# Altium integrated library Renesas Microcontroller R8C.IntLib: 628 symbols (part 26 of 33)
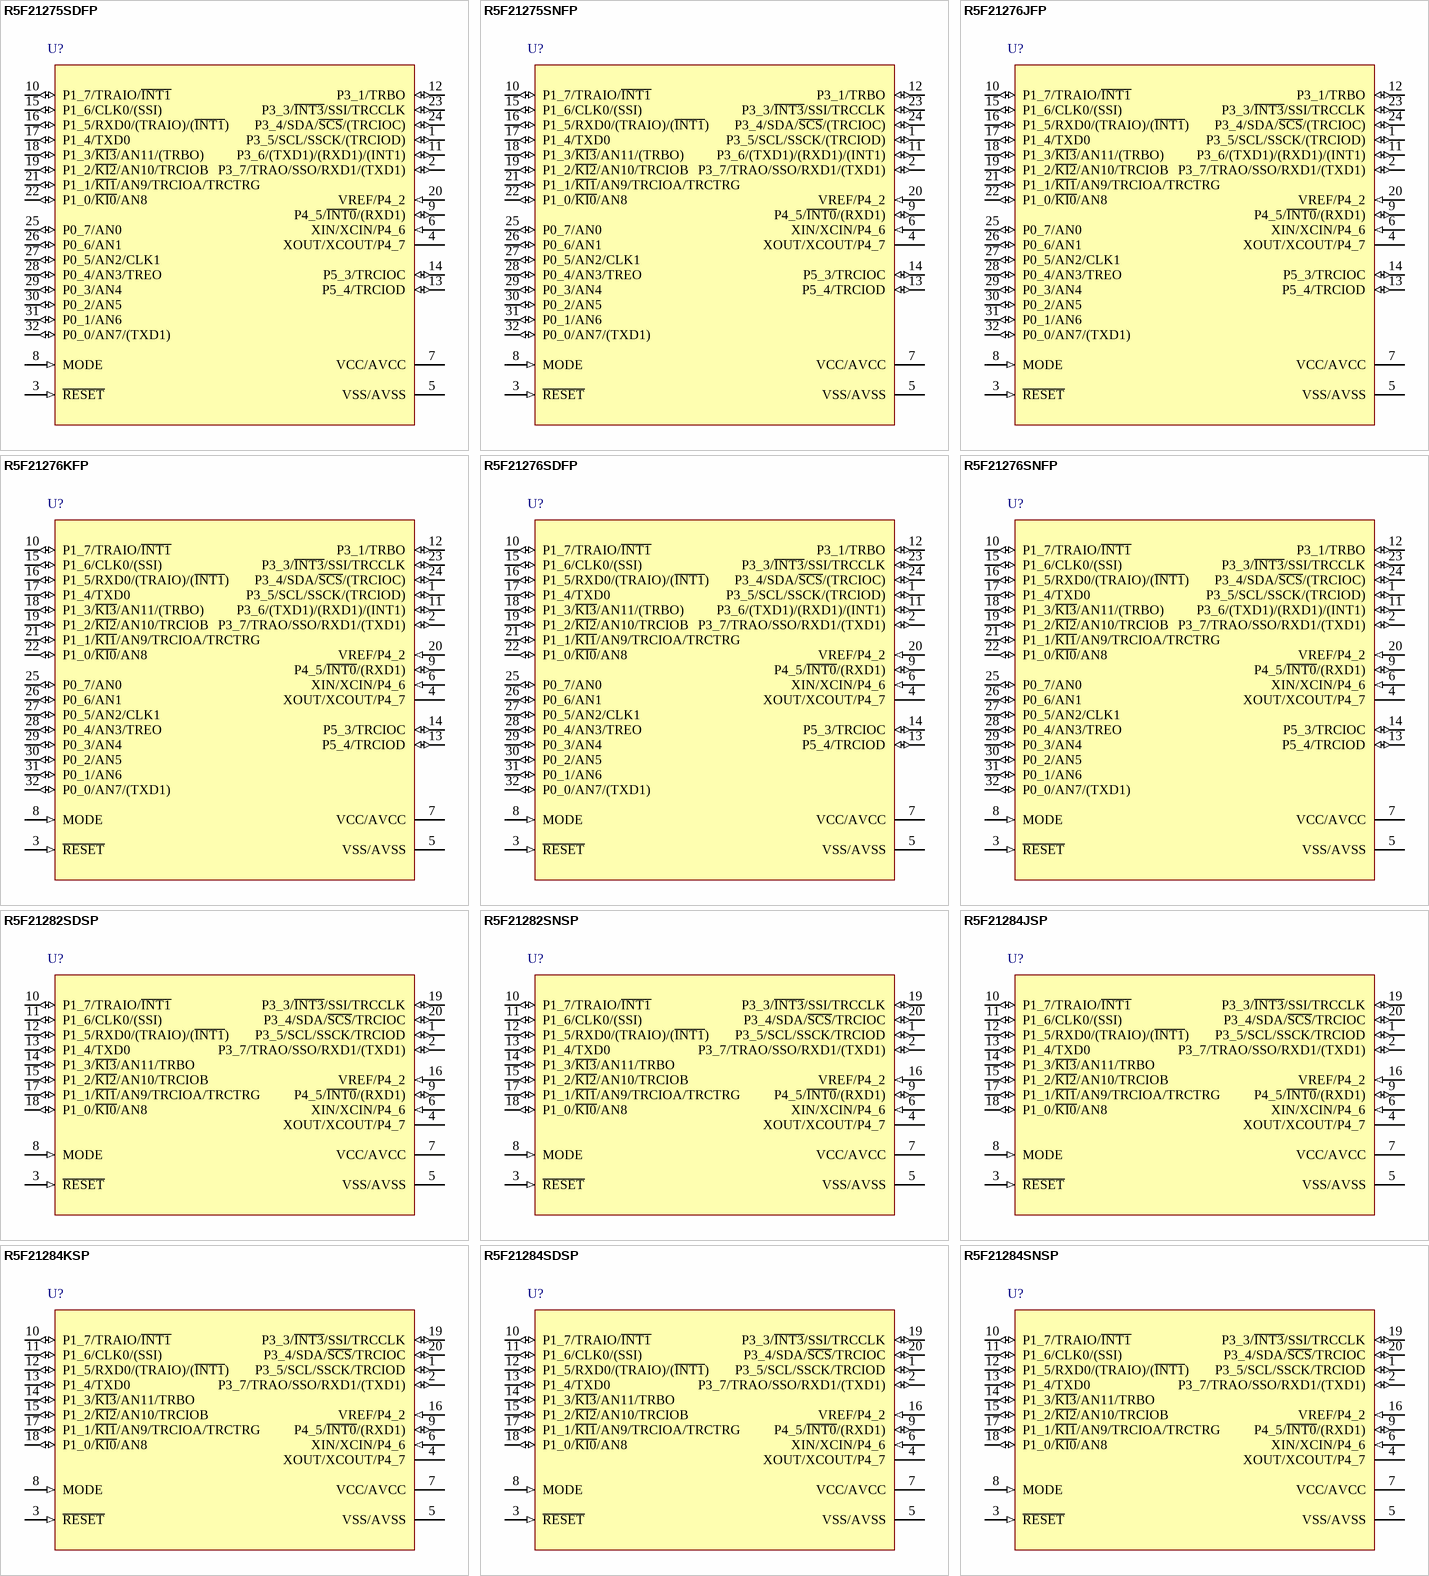
[diagram p141: symbols R5F21275SDFP to R5F21284SNSP]

## R5F21276SNFP
designator U?
R8C/27 Group Single Chip 16-Bit CMOS MCU, 32K ROM + 1K x2 Data Flash, 1.5K RAM, N Version; Published: 30-Oct-2009; DatasheetVersion: Rev.2.10, Sep-2008; PackageVersion: Oct-2005; PackageReference: PLQP0032GB-A; Publisher: Altium Limited; PackageDescription: 32-Pin Plastic Low Profile QFP, 7 x 7 x 1.4 mm Body, 0.8 mm Pitch; Code_JEITA: P-LQFP32-7x7-0.80; ComponentLink1Description: Manufacturer Link; ComponentLink1URL: http://sg.renesas.com/fmwk.jsp?cnt=r8c_family_landing.jsp&fp=/products/mpumcu/r8c_family/; ComponentLink2Description: Datasheet; ComponentLink2URL: http://documentation.renesas.com/eng/products/mpumcu/rej03b0168_r8c2627ds.pdf; ComponentLink3Description: Packaging Specification; ComponentLink3URL: http://sg.renesas.com/media/products/common_info/package/pdf/ic/code/plqp0032gb_a.pdf
footprint PLQP0032GB-A_N (QFP, 32-Leads, Body 7x7mm, Pitch 0.8mm, IPC Medium Density)
footprint PLQP0032GB-A_L (QFP, 32-Leads, Body 7x7mm, Pitch 0.8mm, IPC High Density)
footprint PLQP0032GB-A_M (QFP, 32-Leads, Body 7x7mm, Pitch 0.8mm, IPC Low Density)
pins: 1 P3_5/SCL/SSCK/(TRCIOD) (io), 2 P3_7/TRAO/SSO/RXD1/(TXD1) (io), 3 ~{RESET} (in), 4 XOUT/XCOUT/P4_7, 5 VSS/AVSS (power), 6 XIN/XCIN/P4_6 (in), 7 VCC/AVCC (power), 8 MODE (in), 9 P4_5/~{INT0}/(RXD1) (io), 10 P1_7/TRAIO/~{INT1} (io), 11 P3_6/(TXD1)/(RXD1)/(INT1) (io), 12 P3_1/TRBO (io), 13 P5_4/TRCIOD (io), 14 P5_3/TRCIOC (io), 15 P1_6/CLK0/(SSI) (io), 16 P1_5/RXD0/(TRAIO)/(~{INT1}) (io), 17 P1_4/TXD0 (io), 18 P1_3/~{KI3}/AN11/(TRBO) (io), 19 P1_2/~{KI2}/AN10/TRCIOB (io), 20 VREF/P4_2 (in), 21 P1_1/~{KI1}/AN9/TRCIOA/TRCTRG (io), 22 P1_0/~{KI0}/AN8 (io), 23 P3_3/~{INT3}/SSI/TRCCLK (io), 24 P3_4/SDA/~{SCS}/(TRCIOC) (io), 25 P0_7/AN0 (io), 26 P0_6/AN1 (io), 27 P0_5/AN2/CLK1 (io), 28 P0_4/AN3/TREO (io), 29 P0_3/AN4 (io), 30 P0_2/AN5 (io), 31 P0_1/AN6 (io), 32 P0_0/AN7/(TXD1) (io)

## R5F21282SDSP
designator U?
R8C/28 Group Single Chip 16-Bit CMOS MCU, 8K ROM, 512b RAM, D Version; Published: 30-Oct-2009; DatasheetVersion: Rev.2.10, Sep-2008; PackageVersion: Sep-2005; PackageReference: PLSP0020JB-A; Publisher: Altium Limited; PackageDescription: 20-Pin Plastic Low Profile Shrink SOP, 6.5 x 4.4 x 1.15 mm Body, 0.65 mm Pitch; Code_JEITA: P-LSSOP20-4.4x6.5-0.65; Code_JEDEC: MO-152-AC; ComponentLink1Description: Manufacturer Link; ComponentLink1URL: http://sg.renesas.com/fmwk.jsp?cnt=r8c_family_landing.jsp&fp=/products/mpumcu/r8c_family/; ComponentLink2Description: Datasheet; ComponentLink2URL: http://documentation.renesas.com/eng/products/mpumcu/rej03b0169_r8c2829ds.pdf; ComponentLink3Description: Packaging Specification; ComponentLink3URL: http://sg.renesas.com/media/products/common_info/package/pdf/ic/code/plsp0020jb_a.pdf
footprint PLSP0020JB-A_N (SOP, 20-Leads, Body 6.5x4.4mm, Pitch 0.65mm, IPC Medium Density)
footprint PLSP0020JB-A_L (SOP, 20-Leads, Body 6.5x4.4mm, Pitch 0.65mm, IPC High Density)
footprint PLSP0020JB-A_M (SOP, 20-Leads, Body 6.5x4.4mm, Pitch 0.65mm, IPC Low Density)
pins: 1 P3_5/SCL/SSCK/TRCIOD (io), 2 P3_7/TRAO/SSO/RXD1/(TXD1) (io), 3 ~{RESET} (in), 4 XOUT/XCOUT/P4_7, 5 VSS/AVSS (power), 6 XIN/XCIN/P4_6 (in), 7 VCC/AVCC (power), 8 MODE (in), 9 P4_5/~{INT0}/(RXD1) (io), 10 P1_7/TRAIO/~{INT1} (io), 11 P1_6/CLK0/(SSI) (io), 12 P1_5/RXD0/(TRAIO)/(~{INT1}) (io), 13 P1_4/TXD0 (io), 14 P1_3/~{KI3}/AN11/TRBO (io), 15 P1_2/~{KI2}/AN10/TRCIOB (io), 16 VREF/P4_2 (in), 17 P1_1/~{KI1}/AN9/TRCIOA/TRCTRG (io), 18 P1_0/~{KI0}/AN8 (io), 19 P3_3/~{INT3}/SSI/TRCCLK (io), 20 P3_4/SDA/~{SCS}/TRCIOC (io)

## R5F21282SNSP
designator U?
R8C/28 Group Single Chip 16-Bit CMOS MCU, 8K ROM, 512b RAM, N Version; Published: 30-Oct-2009; DatasheetVersion: Rev.2.10, Sep-2008; PackageVersion: Sep-2005; PackageReference: PLSP0020JB-A; Publisher: Altium Limited; PackageDescription: 20-Pin Plastic Low Profile Shrink SOP, 6.5 x 4.4 x 1.15 mm Body, 0.65 mm Pitch; Code_JEITA: P-LSSOP20-4.4x6.5-0.65; Code_JEDEC: MO-152-AC; ComponentLink1Description: Manufacturer Link; ComponentLink1URL: http://sg.renesas.com/fmwk.jsp?cnt=r8c_family_landing.jsp&fp=/products/mpumcu/r8c_family/; ComponentLink2Description: Datasheet; ComponentLink2URL: http://documentation.renesas.com/eng/products/mpumcu/rej03b0169_r8c2829ds.pdf; ComponentLink3Description: Packaging Specification; ComponentLink3URL: http://sg.renesas.com/media/products/common_info/package/pdf/ic/code/plsp0020jb_a.pdf
footprint PLSP0020JB-A_N (SOP, 20-Leads, Body 6.5x4.4mm, Pitch 0.65mm, IPC Medium Density)
footprint PLSP0020JB-A_L (SOP, 20-Leads, Body 6.5x4.4mm, Pitch 0.65mm, IPC High Density)
footprint PLSP0020JB-A_M (SOP, 20-Leads, Body 6.5x4.4mm, Pitch 0.65mm, IPC Low Density)
pins: 1 P3_5/SCL/SSCK/TRCIOD (io), 2 P3_7/TRAO/SSO/RXD1/(TXD1) (io), 3 ~{RESET} (in), 4 XOUT/XCOUT/P4_7, 5 VSS/AVSS (power), 6 XIN/XCIN/P4_6 (in), 7 VCC/AVCC (power), 8 MODE (in), 9 P4_5/~{INT0}/(RXD1) (io), 10 P1_7/TRAIO/~{INT1} (io), 11 P1_6/CLK0/(SSI) (io), 12 P1_5/RXD0/(TRAIO)/(~{INT1}) (io), 13 P1_4/TXD0 (io), 14 P1_3/~{KI3}/AN11/TRBO (io), 15 P1_2/~{KI2}/AN10/TRCIOB (io), 16 VREF/P4_2 (in), 17 P1_1/~{KI1}/AN9/TRCIOA/TRCTRG (io), 18 P1_0/~{KI0}/AN8 (io), 19 P3_3/~{INT3}/SSI/TRCCLK (io), 20 P3_4/SDA/~{SCS}/TRCIOC (io)

## R5F21284JSP
designator U?
R8C/28 Group Single Chip 16-Bit CMOS MCU, 16K ROM, 1K RAM, J Version; Published: 30-Oct-2009; DatasheetVersion: Rev.2.10, Sep-2008; PackageVersion: Sep-2005; PackageReference: PLSP0020JB-A; Publisher: Altium Limited; PackageDescription: 20-Pin Plastic Low Profile Shrink SOP, 6.5 x 4.4 x 1.15 mm Body, 0.65 mm Pitch; Code_JEITA: P-LSSOP20-4.4x6.5-0.65; Code_JEDEC: MO-152-AC; ComponentLink1Description: Manufacturer Link; ComponentLink1URL: http://sg.renesas.com/fmwk.jsp?cnt=r8c_family_landing.jsp&fp=/products/mpumcu/r8c_family/; ComponentLink2Description: Datasheet; ComponentLink2URL: http://documentation.renesas.com/eng/products/mpumcu/rej03b0169_r8c2829ds.pdf; ComponentLink3Description: Packaging Specification; ComponentLink3URL: http://sg.renesas.com/media/products/common_info/package/pdf/ic/code/plsp0020jb_a.pdf
footprint PLSP0020JB-A_N (SOP, 20-Leads, Body 6.5x4.4mm, Pitch 0.65mm, IPC Medium Density)
footprint PLSP0020JB-A_L (SOP, 20-Leads, Body 6.5x4.4mm, Pitch 0.65mm, IPC High Density)
footprint PLSP0020JB-A_M (SOP, 20-Leads, Body 6.5x4.4mm, Pitch 0.65mm, IPC Low Density)
pins: 1 P3_5/SCL/SSCK/TRCIOD (io), 2 P3_7/TRAO/SSO/RXD1/(TXD1) (io), 3 ~{RESET} (in), 4 XOUT/XCOUT/P4_7, 5 VSS/AVSS (power), 6 XIN/XCIN/P4_6 (in), 7 VCC/AVCC (power), 8 MODE (in), 9 P4_5/~{INT0}/(RXD1) (io), 10 P1_7/TRAIO/~{INT1} (io), 11 P1_6/CLK0/(SSI) (io), 12 P1_5/RXD0/(TRAIO)/(~{INT1}) (io), 13 P1_4/TXD0 (io), 14 P1_3/~{KI3}/AN11/TRBO (io), 15 P1_2/~{KI2}/AN10/TRCIOB (io), 16 VREF/P4_2 (in), 17 P1_1/~{KI1}/AN9/TRCIOA/TRCTRG (io), 18 P1_0/~{KI0}/AN8 (io), 19 P3_3/~{INT3}/SSI/TRCCLK (io), 20 P3_4/SDA/~{SCS}/TRCIOC (io)

## R5F21284KSP
designator U?
R8C/28 Group Single Chip 16-Bit CMOS MCU, 16K ROM, 1K RAM, K Version; Published: 30-Oct-2009; DatasheetVersion: Rev.2.10, Sep-2008; PackageVersion: Sep-2005; PackageReference: PLSP0020JB-A; Publisher: Altium Limited; PackageDescription: 20-Pin Plastic Low Profile Shrink SOP, 6.5 x 4.4 x 1.15 mm Body, 0.65 mm Pitch; Code_JEITA: P-LSSOP20-4.4x6.5-0.65; Code_JEDEC: MO-152-AC; ComponentLink1Description: Manufacturer Link; ComponentLink1URL: http://sg.renesas.com/fmwk.jsp?cnt=r8c_family_landing.jsp&fp=/products/mpumcu/r8c_family/; ComponentLink2Description: Datasheet; ComponentLink2URL: http://documentation.renesas.com/eng/products/mpumcu/rej03b0169_r8c2829ds.pdf; ComponentLink3Description: Packaging Specification; ComponentLink3URL: http://sg.renesas.com/media/products/common_info/package/pdf/ic/code/plsp0020jb_a.pdf
footprint PLSP0020JB-A_N (SOP, 20-Leads, Body 6.5x4.4mm, Pitch 0.65mm, IPC Medium Density)
footprint PLSP0020JB-A_L (SOP, 20-Leads, Body 6.5x4.4mm, Pitch 0.65mm, IPC High Density)
footprint PLSP0020JB-A_M (SOP, 20-Leads, Body 6.5x4.4mm, Pitch 0.65mm, IPC Low Density)
pins: 1 P3_5/SCL/SSCK/TRCIOD (io), 2 P3_7/TRAO/SSO/RXD1/(TXD1) (io), 3 ~{RESET} (in), 4 XOUT/XCOUT/P4_7, 5 VSS/AVSS (power), 6 XIN/XCIN/P4_6 (in), 7 VCC/AVCC (power), 8 MODE (in), 9 P4_5/~{INT0}/(RXD1) (io), 10 P1_7/TRAIO/~{INT1} (io), 11 P1_6/CLK0/(SSI) (io), 12 P1_5/RXD0/(TRAIO)/(~{INT1}) (io), 13 P1_4/TXD0 (io), 14 P1_3/~{KI3}/AN11/TRBO (io), 15 P1_2/~{KI2}/AN10/TRCIOB (io), 16 VREF/P4_2 (in), 17 P1_1/~{KI1}/AN9/TRCIOA/TRCTRG (io), 18 P1_0/~{KI0}/AN8 (io), 19 P3_3/~{INT3}/SSI/TRCCLK (io), 20 P3_4/SDA/~{SCS}/TRCIOC (io)

## R5F21284SDSP
designator U?
R8C/28 Group Single Chip 16-Bit CMOS MCU, 16K ROM, 1K RAM, D Version; Published: 30-Oct-2009; DatasheetVersion: Rev.2.10, Sep-2008; PackageVersion: Sep-2005; PackageReference: PLSP0020JB-A; Publisher: Altium Limited; PackageDescription: 20-Pin Plastic Low Profile Shrink SOP, 6.5 x 4.4 x 1.15 mm Body, 0.65 mm Pitch; Code_JEITA: P-LSSOP20-4.4x6.5-0.65; Code_JEDEC: MO-152-AC; ComponentLink1Description: Manufacturer Link; ComponentLink1URL: http://sg.renesas.com/fmwk.jsp?cnt=r8c_family_landing.jsp&fp=/products/mpumcu/r8c_family/; ComponentLink2Description: Datasheet; ComponentLink2URL: http://documentation.renesas.com/eng/products/mpumcu/rej03b0169_r8c2829ds.pdf; ComponentLink3Description: Packaging Specification; ComponentLink3URL: http://sg.renesas.com/media/products/common_info/package/pdf/ic/code/plsp0020jb_a.pdf
footprint PLSP0020JB-A_N (SOP, 20-Leads, Body 6.5x4.4mm, Pitch 0.65mm, IPC Medium Density)
footprint PLSP0020JB-A_L (SOP, 20-Leads, Body 6.5x4.4mm, Pitch 0.65mm, IPC High Density)
footprint PLSP0020JB-A_M (SOP, 20-Leads, Body 6.5x4.4mm, Pitch 0.65mm, IPC Low Density)
pins: 1 P3_5/SCL/SSCK/TRCIOD (io), 2 P3_7/TRAO/SSO/RXD1/(TXD1) (io), 3 ~{RESET} (in), 4 XOUT/XCOUT/P4_7, 5 VSS/AVSS (power), 6 XIN/XCIN/P4_6 (in), 7 VCC/AVCC (power), 8 MODE (in), 9 P4_5/~{INT0}/(RXD1) (io), 10 P1_7/TRAIO/~{INT1} (io), 11 P1_6/CLK0/(SSI) (io), 12 P1_5/RXD0/(TRAIO)/(~{INT1}) (io), 13 P1_4/TXD0 (io), 14 P1_3/~{KI3}/AN11/TRBO (io), 15 P1_2/~{KI2}/AN10/TRCIOB (io), 16 VREF/P4_2 (in), 17 P1_1/~{KI1}/AN9/TRCIOA/TRCTRG (io), 18 P1_0/~{KI0}/AN8 (io), 19 P3_3/~{INT3}/SSI/TRCCLK (io), 20 P3_4/SDA/~{SCS}/TRCIOC (io)

## R5F21284SNSP
designator U?
R8C/28 Group Single Chip 16-Bit CMOS MCU, 16K ROM, 1K RAM, N Version; Published: 30-Oct-2009; DatasheetVersion: Rev.2.10, Sep-2008; PackageVersion: Sep-2005; PackageReference: PLSP0020JB-A; Publisher: Altium Limited; PackageDescription: 20-Pin Plastic Low Profile Shrink SOP, 6.5 x 4.4 x 1.15 mm Body, 0.65 mm Pitch; Code_JEITA: P-LSSOP20-4.4x6.5-0.65; Code_JEDEC: MO-152-AC; ComponentLink1Description: Manufacturer Link; ComponentLink1URL: http://sg.renesas.com/fmwk.jsp?cnt=r8c_family_landing.jsp&fp=/products/mpumcu/r8c_family/; ComponentLink2Description: Datasheet; ComponentLink2URL: http://documentation.renesas.com/eng/products/mpumcu/rej03b0169_r8c2829ds.pdf; ComponentLink3Description: Packaging Specification; ComponentLink3URL: http://sg.renesas.com/media/products/common_info/package/pdf/ic/code/plsp0020jb_a.pdf
footprint PLSP0020JB-A_N (SOP, 20-Leads, Body 6.5x4.4mm, Pitch 0.65mm, IPC Medium Density)
footprint PLSP0020JB-A_L (SOP, 20-Leads, Body 6.5x4.4mm, Pitch 0.65mm, IPC High Density)
footprint PLSP0020JB-A_M (SOP, 20-Leads, Body 6.5x4.4mm, Pitch 0.65mm, IPC Low Density)
pins: 1 P3_5/SCL/SSCK/TRCIOD (io), 2 P3_7/TRAO/SSO/RXD1/(TXD1) (io), 3 ~{RESET} (in), 4 XOUT/XCOUT/P4_7, 5 VSS/AVSS (power), 6 XIN/XCIN/P4_6 (in), 7 VCC/AVCC (power), 8 MODE (in), 9 P4_5/~{INT0}/(RXD1) (io), 10 P1_7/TRAIO/~{INT1} (io), 11 P1_6/CLK0/(SSI) (io), 12 P1_5/RXD0/(TRAIO)/(~{INT1}) (io), 13 P1_4/TXD0 (io), 14 P1_3/~{KI3}/AN11/TRBO (io), 15 P1_2/~{KI2}/AN10/TRCIOB (io), 16 VREF/P4_2 (in), 17 P1_1/~{KI1}/AN9/TRCIOA/TRCTRG (io), 18 P1_0/~{KI0}/AN8 (io), 19 P3_3/~{INT3}/SSI/TRCCLK (io), 20 P3_4/SDA/~{SCS}/TRCIOC (io)

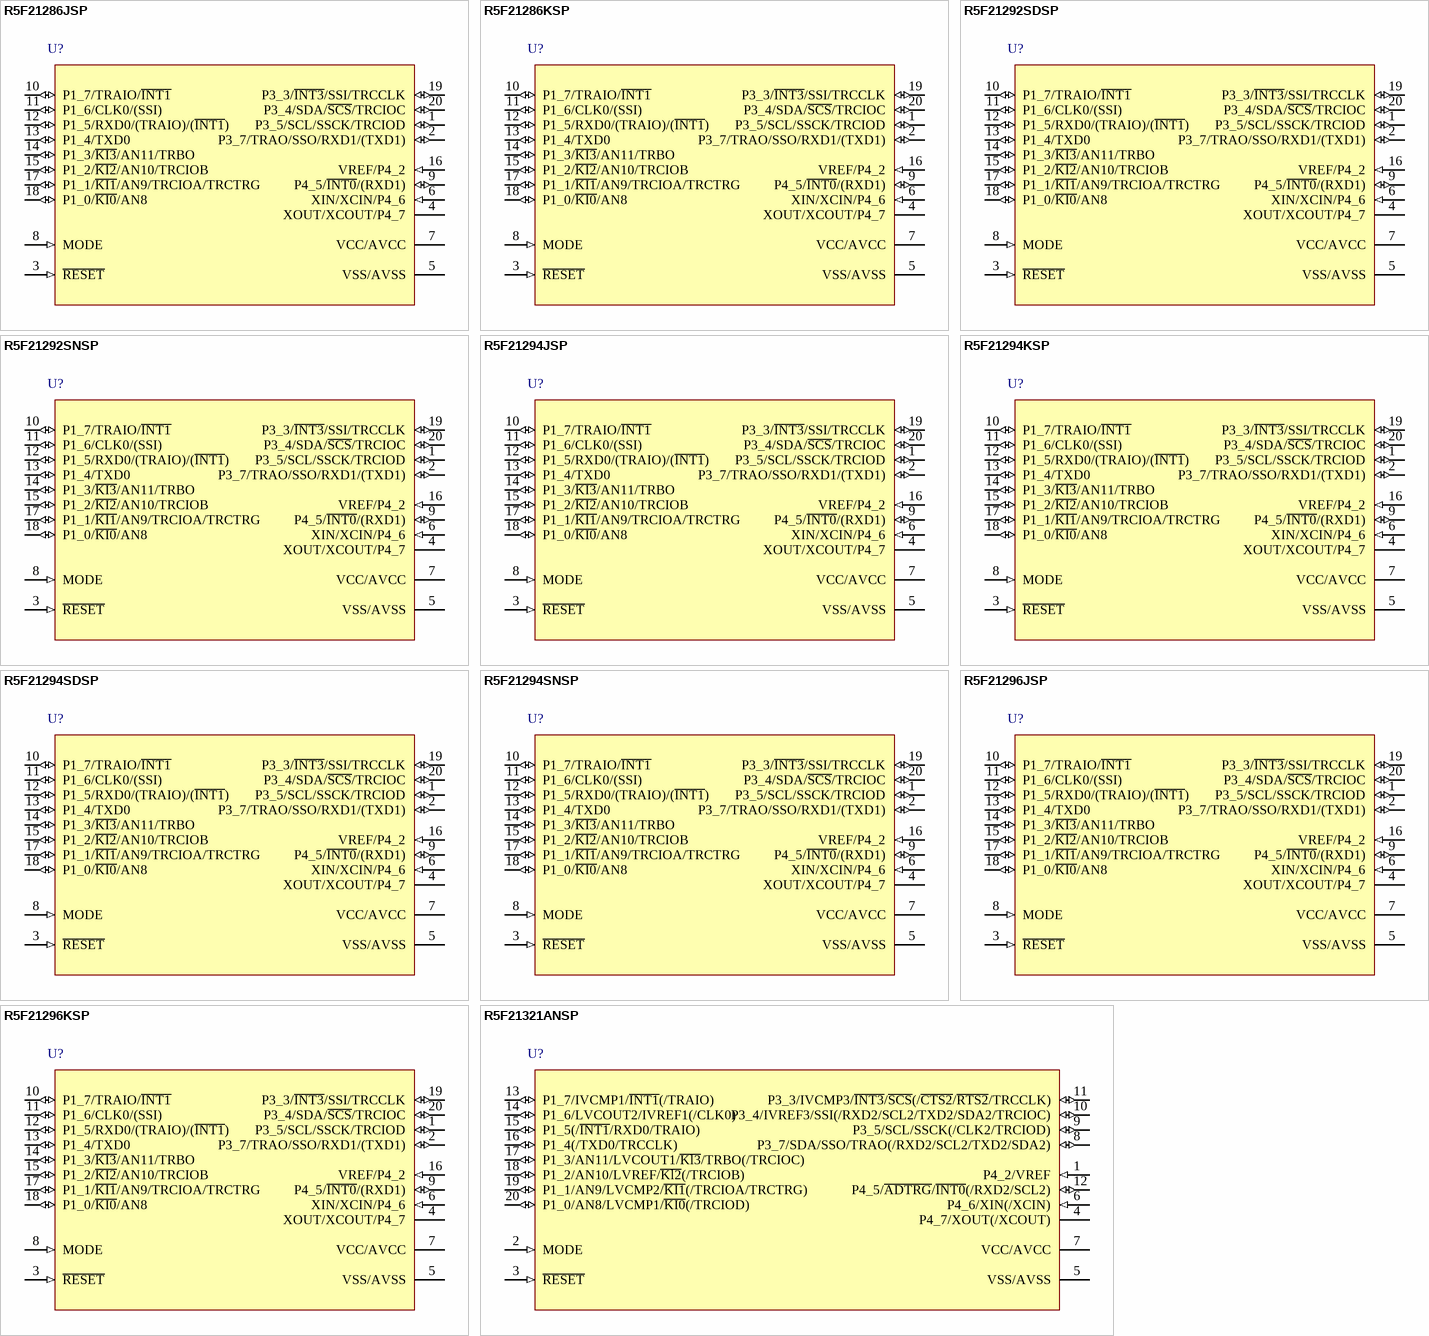
[diagram p89: symbols R5F21286JSP to R5F21321ANSP]

## R5F21286JSP
designator U?
R8C/28 Group Single Chip 16-Bit CMOS MCU, 32K ROM, 1.5K RAM, J Version; Published: 30-Oct-2009; DatasheetVersion: Rev.2.10, Sep-2008; PackageVersion: Sep-2005; PackageReference: PLSP0020JB-A; Publisher: Altium Limited; PackageDescription: 20-Pin Plastic Low Profile Shrink SOP, 6.5 x 4.4 x 1.15 mm Body, 0.65 mm Pitch; Code_JEITA: P-LSSOP20-4.4x6.5-0.65; Code_JEDEC: MO-152-AC; ComponentLink1Description: Manufacturer Link; ComponentLink1URL: http://sg.renesas.com/fmwk.jsp?cnt=r8c_family_landing.jsp&fp=/products/mpumcu/r8c_family/; ComponentLink2Description: Datasheet; ComponentLink2URL: http://documentation.renesas.com/eng/products/mpumcu/rej03b0169_r8c2829ds.pdf; ComponentLink3Description: Packaging Specification; ComponentLink3URL: http://sg.renesas.com/media/products/common_info/package/pdf/ic/code/plsp0020jb_a.pdf
footprint PLSP0020JB-A_N (SOP, 20-Leads, Body 6.5x4.4mm, Pitch 0.65mm, IPC Medium Density)
footprint PLSP0020JB-A_L (SOP, 20-Leads, Body 6.5x4.4mm, Pitch 0.65mm, IPC High Density)
footprint PLSP0020JB-A_M (SOP, 20-Leads, Body 6.5x4.4mm, Pitch 0.65mm, IPC Low Density)
pins: 1 P3_5/SCL/SSCK/TRCIOD (io), 2 P3_7/TRAO/SSO/RXD1/(TXD1) (io), 3 ~{RESET} (in), 4 XOUT/XCOUT/P4_7, 5 VSS/AVSS (power), 6 XIN/XCIN/P4_6 (in), 7 VCC/AVCC (power), 8 MODE (in), 9 P4_5/~{INT0}/(RXD1) (io), 10 P1_7/TRAIO/~{INT1} (io), 11 P1_6/CLK0/(SSI) (io), 12 P1_5/RXD0/(TRAIO)/(~{INT1}) (io), 13 P1_4/TXD0 (io), 14 P1_3/~{KI3}/AN11/TRBO (io), 15 P1_2/~{KI2}/AN10/TRCIOB (io), 16 VREF/P4_2 (in), 17 P1_1/~{KI1}/AN9/TRCIOA/TRCTRG (io), 18 P1_0/~{KI0}/AN8 (io), 19 P3_3/~{INT3}/SSI/TRCCLK (io), 20 P3_4/SDA/~{SCS}/TRCIOC (io)

## R5F21286KSP
designator U?
R8C/28 Group Single Chip 16-Bit CMOS MCU, 32K ROM, 1.5K RAM, K Version; Published: 30-Oct-2009; DatasheetVersion: Rev.2.10, Sep-2008; PackageVersion: Sep-2005; PackageReference: PLSP0020JB-A; Publisher: Altium Limited; PackageDescription: 20-Pin Plastic Low Profile Shrink SOP, 6.5 x 4.4 x 1.15 mm Body, 0.65 mm Pitch; Code_JEITA: P-LSSOP20-4.4x6.5-0.65; Code_JEDEC: MO-152-AC; ComponentLink1Description: Manufacturer Link; ComponentLink1URL: http://sg.renesas.com/fmwk.jsp?cnt=r8c_family_landing.jsp&fp=/products/mpumcu/r8c_family/; ComponentLink2Description: Datasheet; ComponentLink2URL: http://documentation.renesas.com/eng/products/mpumcu/rej03b0169_r8c2829ds.pdf; ComponentLink3Description: Packaging Specification; ComponentLink3URL: http://sg.renesas.com/media/products/common_info/package/pdf/ic/code/plsp0020jb_a.pdf
footprint PLSP0020JB-A_N (SOP, 20-Leads, Body 6.5x4.4mm, Pitch 0.65mm, IPC Medium Density)
footprint PLSP0020JB-A_L (SOP, 20-Leads, Body 6.5x4.4mm, Pitch 0.65mm, IPC High Density)
footprint PLSP0020JB-A_M (SOP, 20-Leads, Body 6.5x4.4mm, Pitch 0.65mm, IPC Low Density)
pins: 1 P3_5/SCL/SSCK/TRCIOD (io), 2 P3_7/TRAO/SSO/RXD1/(TXD1) (io), 3 ~{RESET} (in), 4 XOUT/XCOUT/P4_7, 5 VSS/AVSS (power), 6 XIN/XCIN/P4_6 (in), 7 VCC/AVCC (power), 8 MODE (in), 9 P4_5/~{INT0}/(RXD1) (io), 10 P1_7/TRAIO/~{INT1} (io), 11 P1_6/CLK0/(SSI) (io), 12 P1_5/RXD0/(TRAIO)/(~{INT1}) (io), 13 P1_4/TXD0 (io), 14 P1_3/~{KI3}/AN11/TRBO (io), 15 P1_2/~{KI2}/AN10/TRCIOB (io), 16 VREF/P4_2 (in), 17 P1_1/~{KI1}/AN9/TRCIOA/TRCTRG (io), 18 P1_0/~{KI0}/AN8 (io), 19 P3_3/~{INT3}/SSI/TRCCLK (io), 20 P3_4/SDA/~{SCS}/TRCIOC (io)

## R5F21292SDSP
designator U?
R8C/29 Group Single Chip 16-Bit CMOS MCU, 8K ROM + 1K x2 Data Flash, 512b RAM, D Version; Published: 30-Oct-2009; DatasheetVersion: Rev.2.10, Sep-2008; PackageVersion: Sep-2005; PackageReference: PLSP0020JB-A; Publisher: Altium Limited; PackageDescription: 20-Pin Plastic Low Profile Shrink SOP, 6.5 x 4.4 x 1.15 mm Body, 0.65 mm Pitch; Code_JEITA: P-LSSOP20-4.4x6.5-0.65; Code_JEDEC: MO-152-AC; ComponentLink1Description: Manufacturer Link; ComponentLink1URL: http://sg.renesas.com/fmwk.jsp?cnt=r8c_family_landing.jsp&fp=/products/mpumcu/r8c_family/; ComponentLink2Description: Datasheet; ComponentLink2URL: http://documentation.renesas.com/eng/products/mpumcu/rej03b0169_r8c2829ds.pdf; ComponentLink3Description: Packaging Specification; ComponentLink3URL: http://sg.renesas.com/media/products/common_info/package/pdf/ic/code/plsp0020jb_a.pdf
footprint PLSP0020JB-A_N (SOP, 20-Leads, Body 6.5x4.4mm, Pitch 0.65mm, IPC Medium Density)
footprint PLSP0020JB-A_L (SOP, 20-Leads, Body 6.5x4.4mm, Pitch 0.65mm, IPC High Density)
footprint PLSP0020JB-A_M (SOP, 20-Leads, Body 6.5x4.4mm, Pitch 0.65mm, IPC Low Density)
pins: 1 P3_5/SCL/SSCK/TRCIOD (io), 2 P3_7/TRAO/SSO/RXD1/(TXD1) (io), 3 ~{RESET} (in), 4 XOUT/XCOUT/P4_7, 5 VSS/AVSS (power), 6 XIN/XCIN/P4_6 (in), 7 VCC/AVCC (power), 8 MODE (in), 9 P4_5/~{INT0}/(RXD1) (io), 10 P1_7/TRAIO/~{INT1} (io), 11 P1_6/CLK0/(SSI) (io), 12 P1_5/RXD0/(TRAIO)/(~{INT1}) (io), 13 P1_4/TXD0 (io), 14 P1_3/~{KI3}/AN11/TRBO (io), 15 P1_2/~{KI2}/AN10/TRCIOB (io), 16 VREF/P4_2 (in), 17 P1_1/~{KI1}/AN9/TRCIOA/TRCTRG (io), 18 P1_0/~{KI0}/AN8 (io), 19 P3_3/~{INT3}/SSI/TRCCLK (io), 20 P3_4/SDA/~{SCS}/TRCIOC (io)

## R5F21292SNSP
designator U?
R8C/29 Group Single Chip 16-Bit CMOS MCU, 8K ROM + 1K x2 Data Flash, 512b RAM, N Version; Published: 30-Oct-2009; DatasheetVersion: Rev.2.10, Sep-2008; PackageVersion: Sep-2005; PackageReference: PLSP0020JB-A; Publisher: Altium Limited; PackageDescription: 20-Pin Plastic Low Profile Shrink SOP, 6.5 x 4.4 x 1.15 mm Body, 0.65 mm Pitch; Code_JEITA: P-LSSOP20-4.4x6.5-0.65; Code_JEDEC: MO-152-AC; ComponentLink1Description: Manufacturer Link; ComponentLink1URL: http://sg.renesas.com/fmwk.jsp?cnt=r8c_family_landing.jsp&fp=/products/mpumcu/r8c_family/; ComponentLink2Description: Datasheet; ComponentLink2URL: http://documentation.renesas.com/eng/products/mpumcu/rej03b0169_r8c2829ds.pdf; ComponentLink3Description: Packaging Specification; ComponentLink3URL: http://sg.renesas.com/media/products/common_info/package/pdf/ic/code/plsp0020jb_a.pdf
footprint PLSP0020JB-A_N (SOP, 20-Leads, Body 6.5x4.4mm, Pitch 0.65mm, IPC Medium Density)
footprint PLSP0020JB-A_L (SOP, 20-Leads, Body 6.5x4.4mm, Pitch 0.65mm, IPC High Density)
footprint PLSP0020JB-A_M (SOP, 20-Leads, Body 6.5x4.4mm, Pitch 0.65mm, IPC Low Density)
pins: 1 P3_5/SCL/SSCK/TRCIOD (io), 2 P3_7/TRAO/SSO/RXD1/(TXD1) (io), 3 ~{RESET} (in), 4 XOUT/XCOUT/P4_7, 5 VSS/AVSS (power), 6 XIN/XCIN/P4_6 (in), 7 VCC/AVCC (power), 8 MODE (in), 9 P4_5/~{INT0}/(RXD1) (io), 10 P1_7/TRAIO/~{INT1} (io), 11 P1_6/CLK0/(SSI) (io), 12 P1_5/RXD0/(TRAIO)/(~{INT1}) (io), 13 P1_4/TXD0 (io), 14 P1_3/~{KI3}/AN11/TRBO (io), 15 P1_2/~{KI2}/AN10/TRCIOB (io), 16 VREF/P4_2 (in), 17 P1_1/~{KI1}/AN9/TRCIOA/TRCTRG (io), 18 P1_0/~{KI0}/AN8 (io), 19 P3_3/~{INT3}/SSI/TRCCLK (io), 20 P3_4/SDA/~{SCS}/TRCIOC (io)

## R5F21294JSP
designator U?
R8C/29 Group Single Chip 16-Bit CMOS MCU, 16K ROM + 1K x2 Data Flash, 1K RAM, J Version; Published: 30-Oct-2009; DatasheetVersion: Rev.2.10, Sep-2008; PackageVersion: Sep-2005; PackageReference: PLSP0020JB-A; Publisher: Altium Limited; PackageDescription: 20-Pin Plastic Low Profile Shrink SOP, 6.5 x 4.4 x 1.15 mm Body, 0.65 mm Pitch; Code_JEITA: P-LSSOP20-4.4x6.5-0.65; Code_JEDEC: MO-152-AC; ComponentLink1Description: Manufacturer Link; ComponentLink1URL: http://sg.renesas.com/fmwk.jsp?cnt=r8c_family_landing.jsp&fp=/products/mpumcu/r8c_family/; ComponentLink2Description: Datasheet; ComponentLink2URL: http://documentation.renesas.com/eng/products/mpumcu/rej03b0169_r8c2829ds.pdf; ComponentLink3Description: Packaging Specification; ComponentLink3URL: http://sg.renesas.com/media/products/common_info/package/pdf/ic/code/plsp0020jb_a.pdf
footprint PLSP0020JB-A_N (SOP, 20-Leads, Body 6.5x4.4mm, Pitch 0.65mm, IPC Medium Density)
footprint PLSP0020JB-A_L (SOP, 20-Leads, Body 6.5x4.4mm, Pitch 0.65mm, IPC High Density)
footprint PLSP0020JB-A_M (SOP, 20-Leads, Body 6.5x4.4mm, Pitch 0.65mm, IPC Low Density)
pins: 1 P3_5/SCL/SSCK/TRCIOD (io), 2 P3_7/TRAO/SSO/RXD1/(TXD1) (io), 3 ~{RESET} (in), 4 XOUT/XCOUT/P4_7, 5 VSS/AVSS (power), 6 XIN/XCIN/P4_6 (in), 7 VCC/AVCC (power), 8 MODE (in), 9 P4_5/~{INT0}/(RXD1) (io), 10 P1_7/TRAIO/~{INT1} (io), 11 P1_6/CLK0/(SSI) (io), 12 P1_5/RXD0/(TRAIO)/(~{INT1}) (io), 13 P1_4/TXD0 (io), 14 P1_3/~{KI3}/AN11/TRBO (io), 15 P1_2/~{KI2}/AN10/TRCIOB (io), 16 VREF/P4_2 (in), 17 P1_1/~{KI1}/AN9/TRCIOA/TRCTRG (io), 18 P1_0/~{KI0}/AN8 (io), 19 P3_3/~{INT3}/SSI/TRCCLK (io), 20 P3_4/SDA/~{SCS}/TRCIOC (io)

## R5F21294KSP
designator U?
R8C/29 Group Single Chip 16-Bit CMOS MCU, 16K ROM + 1K x2 Data Flash, 1K RAM, K Version; Published: 30-Oct-2009; DatasheetVersion: Rev.2.10, Sep-2008; PackageVersion: Sep-2005; PackageReference: PLSP0020JB-A; Publisher: Altium Limited; PackageDescription: 20-Pin Plastic Low Profile Shrink SOP, 6.5 x 4.4 x 1.15 mm Body, 0.65 mm Pitch; Code_JEITA: P-LSSOP20-4.4x6.5-0.65; Code_JEDEC: MO-152-AC; ComponentLink1Description: Manufacturer Link; ComponentLink1URL: http://sg.renesas.com/fmwk.jsp?cnt=r8c_family_landing.jsp&fp=/products/mpumcu/r8c_family/; ComponentLink2Description: Datasheet; ComponentLink2URL: http://documentation.renesas.com/eng/products/mpumcu/rej03b0169_r8c2829ds.pdf; ComponentLink3Description: Packaging Specification; ComponentLink3URL: http://sg.renesas.com/media/products/common_info/package/pdf/ic/code/plsp0020jb_a.pdf
footprint PLSP0020JB-A_N (SOP, 20-Leads, Body 6.5x4.4mm, Pitch 0.65mm, IPC Medium Density)
footprint PLSP0020JB-A_L (SOP, 20-Leads, Body 6.5x4.4mm, Pitch 0.65mm, IPC High Density)
footprint PLSP0020JB-A_M (SOP, 20-Leads, Body 6.5x4.4mm, Pitch 0.65mm, IPC Low Density)
pins: 1 P3_5/SCL/SSCK/TRCIOD (io), 2 P3_7/TRAO/SSO/RXD1/(TXD1) (io), 3 ~{RESET} (in), 4 XOUT/XCOUT/P4_7, 5 VSS/AVSS (power), 6 XIN/XCIN/P4_6 (in), 7 VCC/AVCC (power), 8 MODE (in), 9 P4_5/~{INT0}/(RXD1) (io), 10 P1_7/TRAIO/~{INT1} (io), 11 P1_6/CLK0/(SSI) (io), 12 P1_5/RXD0/(TRAIO)/(~{INT1}) (io), 13 P1_4/TXD0 (io), 14 P1_3/~{KI3}/AN11/TRBO (io), 15 P1_2/~{KI2}/AN10/TRCIOB (io), 16 VREF/P4_2 (in), 17 P1_1/~{KI1}/AN9/TRCIOA/TRCTRG (io), 18 P1_0/~{KI0}/AN8 (io), 19 P3_3/~{INT3}/SSI/TRCCLK (io), 20 P3_4/SDA/~{SCS}/TRCIOC (io)

## R5F21294SDSP
designator U?
R8C/29 Group Single Chip 16-Bit CMOS MCU, 16K ROM + 1K x2 Data Flash, 1K RAM, D Version; Published: 30-Oct-2009; DatasheetVersion: Rev.2.10, Sep-2008; PackageVersion: Sep-2005; PackageReference: PLSP0020JB-A; Publisher: Altium Limited; PackageDescription: 20-Pin Plastic Low Profile Shrink SOP, 6.5 x 4.4 x 1.15 mm Body, 0.65 mm Pitch; Code_JEITA: P-LSSOP20-4.4x6.5-0.65; Code_JEDEC: MO-152-AC; ComponentLink1Description: Manufacturer Link; ComponentLink1URL: http://sg.renesas.com/fmwk.jsp?cnt=r8c_family_landing.jsp&fp=/products/mpumcu/r8c_family/; ComponentLink2Description: Datasheet; ComponentLink2URL: http://documentation.renesas.com/eng/products/mpumcu/rej03b0169_r8c2829ds.pdf; ComponentLink3Description: Packaging Specification; ComponentLink3URL: http://sg.renesas.com/media/products/common_info/package/pdf/ic/code/plsp0020jb_a.pdf
footprint PLSP0020JB-A_N (SOP, 20-Leads, Body 6.5x4.4mm, Pitch 0.65mm, IPC Medium Density)
footprint PLSP0020JB-A_L (SOP, 20-Leads, Body 6.5x4.4mm, Pitch 0.65mm, IPC High Density)
footprint PLSP0020JB-A_M (SOP, 20-Leads, Body 6.5x4.4mm, Pitch 0.65mm, IPC Low Density)
pins: 1 P3_5/SCL/SSCK/TRCIOD (io), 2 P3_7/TRAO/SSO/RXD1/(TXD1) (io), 3 ~{RESET} (in), 4 XOUT/XCOUT/P4_7, 5 VSS/AVSS (power), 6 XIN/XCIN/P4_6 (in), 7 VCC/AVCC (power), 8 MODE (in), 9 P4_5/~{INT0}/(RXD1) (io), 10 P1_7/TRAIO/~{INT1} (io), 11 P1_6/CLK0/(SSI) (io), 12 P1_5/RXD0/(TRAIO)/(~{INT1}) (io), 13 P1_4/TXD0 (io), 14 P1_3/~{KI3}/AN11/TRBO (io), 15 P1_2/~{KI2}/AN10/TRCIOB (io), 16 VREF/P4_2 (in), 17 P1_1/~{KI1}/AN9/TRCIOA/TRCTRG (io), 18 P1_0/~{KI0}/AN8 (io), 19 P3_3/~{INT3}/SSI/TRCCLK (io), 20 P3_4/SDA/~{SCS}/TRCIOC (io)

## R5F21294SNSP
designator U?
R8C/29 Group Single Chip 16-Bit CMOS MCU, 16K ROM + 1K x2 Data Flash, 1K RAM, N Version; Published: 30-Oct-2009; DatasheetVersion: Rev.2.10, Sep-2008; PackageVersion: Sep-2005; PackageReference: PLSP0020JB-A; Publisher: Altium Limited; PackageDescription: 20-Pin Plastic Low Profile Shrink SOP, 6.5 x 4.4 x 1.15 mm Body, 0.65 mm Pitch; Code_JEITA: P-LSSOP20-4.4x6.5-0.65; Code_JEDEC: MO-152-AC; ComponentLink1Description: Manufacturer Link; ComponentLink1URL: http://sg.renesas.com/fmwk.jsp?cnt=r8c_family_landing.jsp&fp=/products/mpumcu/r8c_family/; ComponentLink2Description: Datasheet; ComponentLink2URL: http://documentation.renesas.com/eng/products/mpumcu/rej03b0169_r8c2829ds.pdf; ComponentLink3Description: Packaging Specification; ComponentLink3URL: http://sg.renesas.com/media/products/common_info/package/pdf/ic/code/plsp0020jb_a.pdf
footprint PLSP0020JB-A_N (SOP, 20-Leads, Body 6.5x4.4mm, Pitch 0.65mm, IPC Medium Density)
footprint PLSP0020JB-A_L (SOP, 20-Leads, Body 6.5x4.4mm, Pitch 0.65mm, IPC High Density)
footprint PLSP0020JB-A_M (SOP, 20-Leads, Body 6.5x4.4mm, Pitch 0.65mm, IPC Low Density)
pins: 1 P3_5/SCL/SSCK/TRCIOD (io), 2 P3_7/TRAO/SSO/RXD1/(TXD1) (io), 3 ~{RESET} (in), 4 XOUT/XCOUT/P4_7, 5 VSS/AVSS (power), 6 XIN/XCIN/P4_6 (in), 7 VCC/AVCC (power), 8 MODE (in), 9 P4_5/~{INT0}/(RXD1) (io), 10 P1_7/TRAIO/~{INT1} (io), 11 P1_6/CLK0/(SSI) (io), 12 P1_5/RXD0/(TRAIO)/(~{INT1}) (io), 13 P1_4/TXD0 (io), 14 P1_3/~{KI3}/AN11/TRBO (io), 15 P1_2/~{KI2}/AN10/TRCIOB (io), 16 VREF/P4_2 (in), 17 P1_1/~{KI1}/AN9/TRCIOA/TRCTRG (io), 18 P1_0/~{KI0}/AN8 (io), 19 P3_3/~{INT3}/SSI/TRCCLK (io), 20 P3_4/SDA/~{SCS}/TRCIOC (io)

## R5F21296JSP
designator U?
R8C/29 Group Single Chip 16-Bit CMOS MCU, 32K ROM + 1K x2 Data Flash, 1.5K RAM, J Version; Published: 30-Oct-2009; DatasheetVersion: Rev.2.10, Sep-2008; PackageVersion: Sep-2005; PackageReference: PLSP0020JB-A; Publisher: Altium Limited; PackageDescription: 20-Pin Plastic Low Profile Shrink SOP, 6.5 x 4.4 x 1.15 mm Body, 0.65 mm Pitch; Code_JEITA: P-LSSOP20-4.4x6.5-0.65; Code_JEDEC: MO-152-AC; ComponentLink1Description: Manufacturer Link; ComponentLink1URL: http://sg.renesas.com/fmwk.jsp?cnt=r8c_family_landing.jsp&fp=/products/mpumcu/r8c_family/; ComponentLink2Description: Datasheet; ComponentLink2URL: http://documentation.renesas.com/eng/products/mpumcu/rej03b0169_r8c2829ds.pdf; ComponentLink3Description: Packaging Specification; ComponentLink3URL: http://sg.renesas.com/media/products/common_info/package/pdf/ic/code/plsp0020jb_a.pdf
footprint PLSP0020JB-A_N (SOP, 20-Leads, Body 6.5x4.4mm, Pitch 0.65mm, IPC Medium Density)
footprint PLSP0020JB-A_L (SOP, 20-Leads, Body 6.5x4.4mm, Pitch 0.65mm, IPC High Density)
footprint PLSP0020JB-A_M (SOP, 20-Leads, Body 6.5x4.4mm, Pitch 0.65mm, IPC Low Density)
pins: 1 P3_5/SCL/SSCK/TRCIOD (io), 2 P3_7/TRAO/SSO/RXD1/(TXD1) (io), 3 ~{RESET} (in), 4 XOUT/XCOUT/P4_7, 5 VSS/AVSS (power), 6 XIN/XCIN/P4_6 (in), 7 VCC/AVCC (power), 8 MODE (in), 9 P4_5/~{INT0}/(RXD1) (io), 10 P1_7/TRAIO/~{INT1} (io), 11 P1_6/CLK0/(SSI) (io), 12 P1_5/RXD0/(TRAIO)/(~{INT1}) (io), 13 P1_4/TXD0 (io), 14 P1_3/~{KI3}/AN11/TRBO (io), 15 P1_2/~{KI2}/AN10/TRCIOB (io), 16 VREF/P4_2 (in), 17 P1_1/~{KI1}/AN9/TRCIOA/TRCTRG (io), 18 P1_0/~{KI0}/AN8 (io), 19 P3_3/~{INT3}/SSI/TRCCLK (io), 20 P3_4/SDA/~{SCS}/TRCIOC (io)

## R5F21296KSP
designator U?
R8C/29 Group Single Chip 16-Bit CMOS MCU, 32K ROM + 1K x2 Data Flash, 1.5K RAM, K Version; Published: 30-Oct-2009; DatasheetVersion: Rev.2.10, Sep-2008; PackageVersion: Sep-2005; PackageReference: PLSP0020JB-A; Publisher: Altium Limited; PackageDescription: 20-Pin Plastic Low Profile Shrink SOP, 6.5 x 4.4 x 1.15 mm Body, 0.65 mm Pitch; Code_JEITA: P-LSSOP20-4.4x6.5-0.65; Code_JEDEC: MO-152-AC; ComponentLink1Description: Manufacturer Link; ComponentLink1URL: http://sg.renesas.com/fmwk.jsp?cnt=r8c_family_landing.jsp&fp=/products/mpumcu/r8c_family/; ComponentLink2Description: Datasheet; ComponentLink2URL: http://documentation.renesas.com/eng/products/mpumcu/rej03b0169_r8c2829ds.pdf; ComponentLink3Description: Packaging Specification; ComponentLink3URL: http://sg.renesas.com/media/products/common_info/package/pdf/ic/code/plsp0020jb_a.pdf
footprint PLSP0020JB-A_N (SOP, 20-Leads, Body 6.5x4.4mm, Pitch 0.65mm, IPC Medium Density)
footprint PLSP0020JB-A_L (SOP, 20-Leads, Body 6.5x4.4mm, Pitch 0.65mm, IPC High Density)
footprint PLSP0020JB-A_M (SOP, 20-Leads, Body 6.5x4.4mm, Pitch 0.65mm, IPC Low Density)
pins: 1 P3_5/SCL/SSCK/TRCIOD (io), 2 P3_7/TRAO/SSO/RXD1/(TXD1) (io), 3 ~{RESET} (in), 4 XOUT/XCOUT/P4_7, 5 VSS/AVSS (power), 6 XIN/XCIN/P4_6 (in), 7 VCC/AVCC (power), 8 MODE (in), 9 P4_5/~{INT0}/(RXD1) (io), 10 P1_7/TRAIO/~{INT1} (io), 11 P1_6/CLK0/(SSI) (io), 12 P1_5/RXD0/(TRAIO)/(~{INT1}) (io), 13 P1_4/TXD0 (io), 14 P1_3/~{KI3}/AN11/TRBO (io), 15 P1_2/~{KI2}/AN10/TRCIOB (io), 16 VREF/P4_2 (in), 17 P1_1/~{KI1}/AN9/TRCIOA/TRCTRG (io), 18 P1_0/~{KI0}/AN8 (io), 19 P3_3/~{INT3}/SSI/TRCCLK (io), 20 P3_4/SDA/~{SCS}/TRCIOC (io)

## R5F21321ANSP
designator U?
R8C/32A Group Single Chip 16-Bit CMOS MCU, 4K ROM + 1K x4 Data Flash, 512b RAM, N Version; Published: 30-Oct-2009; DatasheetVersion: Rev.1.00, Sep-2009; PackageVersion: Sep-2005; PackageReference: PLSP0020JB-A; Publisher: Altium Limited; PackageDescription: 20-Pin Plastic Low Profile Shrink SOP, 6.5 x 4.4 x 1.15 mm Body, 0.65 mm Pitch; Code_JEITA: P-LSSOP20-4.4x6.5-0.65; Code_JEDEC: MO-152-AC; ComponentLink1Description: Manufacturer Link; ComponentLink1URL: http://sg.renesas.com/fmwk.jsp?cnt=r8c_family_landing.jsp&fp=/products/mpumcu/r8c_family/; ComponentLink2Description: Datasheet; ComponentLink2URL: http://documentation.renesas.com/eng/products/mpumcu/rej03b0229_r8c32ads.pdf; ComponentLink3Description: Packaging Specification; ComponentLink3URL: http://sg.renesas.com/media/products/common_info/package/pdf/ic/code/plsp0020jb_a.pdf
footprint PLSP0020JB-A_N (SOP, 20-Leads, Body 6.5x4.4mm, Pitch 0.65mm, IPC Medium Density)
footprint PLSP0020JB-A_L (SOP, 20-Leads, Body 6.5x4.4mm, Pitch 0.65mm, IPC High Density)
footprint PLSP0020JB-A_M (SOP, 20-Leads, Body 6.5x4.4mm, Pitch 0.65mm, IPC Low Density)
pins: 1 P4_2/VREF (in), 2 MODE (in), 3 ~{RESET} (in), 4 P4_7/XOUT(/XCOUT), 5 VSS/AVSS (power), 6 P4_6/XIN(/XCIN) (in), 7 VCC/AVCC (power), 8 P3_7/SDA/SSO/TRAO(/RXD2/SCL2/TXD2/SDA2) (io), 9 P3_5/SCL/SSCK(/CLK2/TRCIOD) (io), 10 P3_4/IVREF3/SSI(/RXD2/SCL2/TXD2/SDA2/TRCIOC) (io), 11 P3_3/IVCMP3/~{INT3}/~{SCS}(/~{CTS2}/~{RTS2}/TRCCLK) (io), 12 P4_5/~{ADTRG}/~{INT0}(/RXD2/SCL2) (io), 13 P1_7/IVCMP1/~{INT1}(/TRAIO) (io), 14 P1_6/LVCOUT2/IVREF1(/CLK0) (io), 15 P1_5(/~{INT1}/RXD0/TRAIO) (io), 16 P1_4(/TXD0/TRCCLK) (io), 17 P1_3/AN11/LVCOUT1/~{Kl3}/TRBO(/TRCIOC) (io), 18 P1_2/AN10/LVREF/~{Kl2}(/TRCIOB) (io), 19 P1_1/AN9/LVCMP2/~{KI1}(/TRCIOA/TRCTRG) (io), 20 P1_0/AN8/LVCMP1/~{KI0}(/TRCIOD) (io)

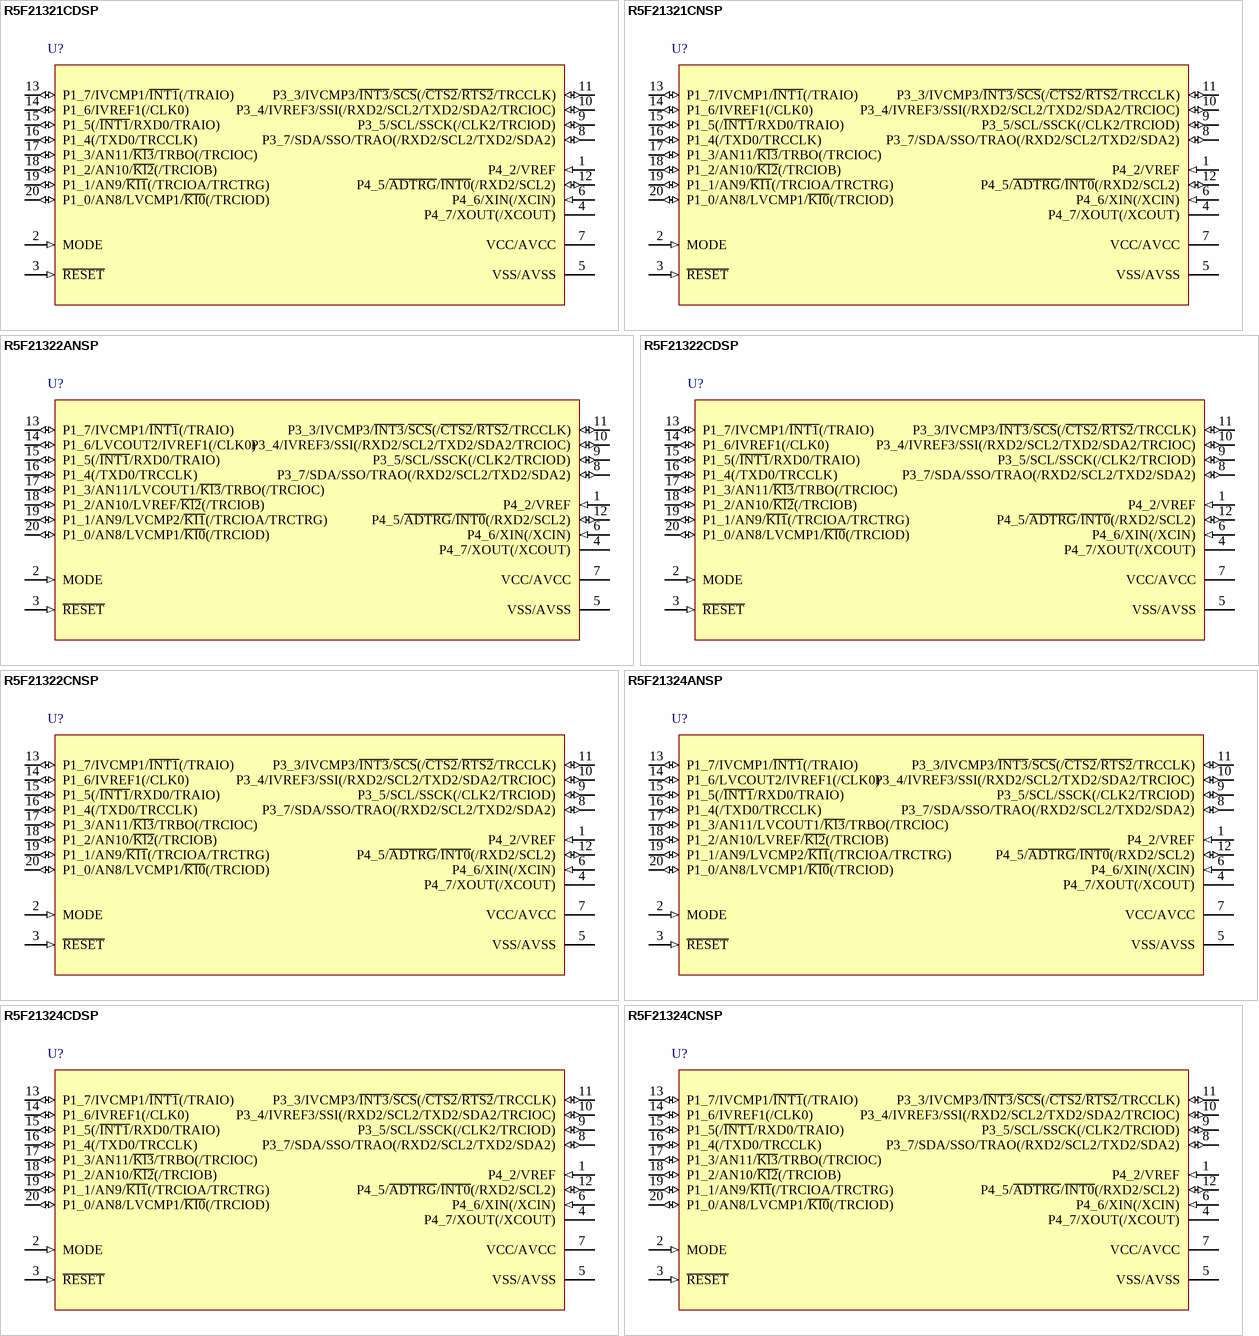
[diagram p90: symbols R5F21321CDSP to R5F21324CNSP]

## R5F21321CDSP
designator U?
R8C/32C Group Single Chip 16-Bit CMOS MCU, 4K + 4K ROM, 512b RAM, D Version; Published: 17-Feb-2010; DatasheetVersion: Rev.1.00, Dec-2009; PackageVersion: Sep-2005; PackageReference: PLSP0020JB-A; Publisher: Altium Limited; PackageDescription: 20-Pin Plastic Low Profile Shrink SOP, 6.5 x 4.4 x 1.15 mm Body, 0.65 mm Pitch; Code_JEITA: P-LSSOP20-4.4x6.5-0.65; Code_JEDEC: MO-152-AC; ComponentLink1Description: Manufacturer Link; ComponentLink1URL: http://sg.renesas.com/fmwk.jsp?cnt=r8c_family_landing.jsp&fp=/products/mpumcu/r8c_family/; ComponentLink2Description: Datasheet; ComponentLink2URL: http://documentation.renesas.com/eng/products/mpumcu/rej09b0573_r8c32chm.pdf; ComponentLink3Description: Packaging Specification; ComponentLink3URL: http://sg.renesas.com/media/products/common_info/package/pdf/ic/code/plsp0020jb_a.pdf
footprint PLSP0020JB-A_N (SOP, 20-Leads, Body 6.5x4.4mm, Pitch 0.65mm, IPC Medium Density)
footprint PLSP0020JB-A_L (SOP, 20-Leads, Body 6.5x4.4mm, Pitch 0.65mm, IPC High Density)
footprint PLSP0020JB-A_M (SOP, 20-Leads, Body 6.5x4.4mm, Pitch 0.65mm, IPC Low Density)
pins: 1 P4_2/VREF (in), 2 MODE (in), 3 ~{RESET} (in), 4 P4_7/XOUT(/XCOUT), 5 VSS/AVSS (power), 6 P4_6/XIN(/XCIN) (in), 7 VCC/AVCC (power), 8 P3_7/SDA/SSO/TRAO(/RXD2/SCL2/TXD2/SDA2) (io), 9 P3_5/SCL/SSCK(/CLK2/TRCIOD) (io), 10 P3_4/IVREF3/SSI(/RXD2/SCL2/TXD2/SDA2/TRCIOC) (io), 11 P3_3/IVCMP3/~{INT3}/~{SCS}(/~{CTS2}/~{RTS2}/TRCCLK) (io), 12 P4_5/~{ADTRG}/~{INT0}(/RXD2/SCL2) (io), 13 P1_7/IVCMP1/~{INT1}(/TRAIO) (io), 14 P1_6/IVREF1(/CLK0) (io), 15 P1_5(/~{INT1}/RXD0/TRAIO) (io), 16 P1_4(/TXD0/TRCCLK) (io), 17 P1_3/AN11/~{Kl3}/TRBO(/TRCIOC) (io), 18 P1_2/AN10/~{Kl2}(/TRCIOB) (io), 19 P1_1/AN9/~{KI1}(/TRCIOA/TRCTRG) (io), 20 P1_0/AN8/LVCMP1/~{KI0}(/TRCIOD) (io)

## R5F21321CNSP
designator U?
R8C/32C Group Single Chip 16-Bit CMOS MCU, 4K + 4K ROM, 512b RAM, N Version; Published: 17-Feb-2010; DatasheetVersion: Rev.1.00, Dec-2009; PackageVersion: Sep-2005; PackageReference: PLSP0020JB-A; Publisher: Altium Limited; PackageDescription: 20-Pin Plastic Low Profile Shrink SOP, 6.5 x 4.4 x 1.15 mm Body, 0.65 mm Pitch; Code_JEITA: P-LSSOP20-4.4x6.5-0.65; Code_JEDEC: MO-152-AC; ComponentLink1Description: Manufacturer Link; ComponentLink1URL: http://sg.renesas.com/fmwk.jsp?cnt=r8c_family_landing.jsp&fp=/products/mpumcu/r8c_family/; ComponentLink2Description: Datasheet; ComponentLink2URL: http://documentation.renesas.com/eng/products/mpumcu/rej09b0573_r8c32chm.pdf; ComponentLink3Description: Packaging Specification; ComponentLink3URL: http://sg.renesas.com/media/products/common_info/package/pdf/ic/code/plsp0020jb_a.pdf
footprint PLSP0020JB-A_N (SOP, 20-Leads, Body 6.5x4.4mm, Pitch 0.65mm, IPC Medium Density)
footprint PLSP0020JB-A_L (SOP, 20-Leads, Body 6.5x4.4mm, Pitch 0.65mm, IPC High Density)
footprint PLSP0020JB-A_M (SOP, 20-Leads, Body 6.5x4.4mm, Pitch 0.65mm, IPC Low Density)
pins: 1 P4_2/VREF (in), 2 MODE (in), 3 ~{RESET} (in), 4 P4_7/XOUT(/XCOUT), 5 VSS/AVSS (power), 6 P4_6/XIN(/XCIN) (in), 7 VCC/AVCC (power), 8 P3_7/SDA/SSO/TRAO(/RXD2/SCL2/TXD2/SDA2) (io), 9 P3_5/SCL/SSCK(/CLK2/TRCIOD) (io), 10 P3_4/IVREF3/SSI(/RXD2/SCL2/TXD2/SDA2/TRCIOC) (io), 11 P3_3/IVCMP3/~{INT3}/~{SCS}(/~{CTS2}/~{RTS2}/TRCCLK) (io), 12 P4_5/~{ADTRG}/~{INT0}(/RXD2/SCL2) (io), 13 P1_7/IVCMP1/~{INT1}(/TRAIO) (io), 14 P1_6/IVREF1(/CLK0) (io), 15 P1_5(/~{INT1}/RXD0/TRAIO) (io), 16 P1_4(/TXD0/TRCCLK) (io), 17 P1_3/AN11/~{Kl3}/TRBO(/TRCIOC) (io), 18 P1_2/AN10/~{Kl2}(/TRCIOB) (io), 19 P1_1/AN9/~{KI1}(/TRCIOA/TRCTRG) (io), 20 P1_0/AN8/LVCMP1/~{KI0}(/TRCIOD) (io)

## R5F21322ANSP
designator U?
R8C/32A Group Single Chip 16-Bit CMOS MCU, 8K ROM + 1K x4 Data Flash, 1K RAM, N Version; Published: 30-Oct-2009; DatasheetVersion: Rev.1.00, Sep-2009; PackageVersion: Sep-2005; PackageReference: PLSP0020JB-A; Publisher: Altium Limited; PackageDescription: 20-Pin Plastic Low Profile Shrink SOP, 6.5 x 4.4 x 1.15 mm Body, 0.65 mm Pitch; Code_JEITA: P-LSSOP20-4.4x6.5-0.65; Code_JEDEC: MO-152-AC; ComponentLink1Description: Manufacturer Link; ComponentLink1URL: http://sg.renesas.com/fmwk.jsp?cnt=r8c_family_landing.jsp&fp=/products/mpumcu/r8c_family/; ComponentLink2Description: Datasheet; ComponentLink2URL: http://documentation.renesas.com/eng/products/mpumcu/rej03b0229_r8c32ads.pdf; ComponentLink3Description: Packaging Specification; ComponentLink3URL: http://sg.renesas.com/media/products/common_info/package/pdf/ic/code/plsp0020jb_a.pdf
footprint PLSP0020JB-A_N (SOP, 20-Leads, Body 6.5x4.4mm, Pitch 0.65mm, IPC Medium Density)
footprint PLSP0020JB-A_L (SOP, 20-Leads, Body 6.5x4.4mm, Pitch 0.65mm, IPC High Density)
footprint PLSP0020JB-A_M (SOP, 20-Leads, Body 6.5x4.4mm, Pitch 0.65mm, IPC Low Density)
pins: 1 P4_2/VREF (in), 2 MODE (in), 3 ~{RESET} (in), 4 P4_7/XOUT(/XCOUT), 5 VSS/AVSS (power), 6 P4_6/XIN(/XCIN) (in), 7 VCC/AVCC (power), 8 P3_7/SDA/SSO/TRAO(/RXD2/SCL2/TXD2/SDA2) (io), 9 P3_5/SCL/SSCK(/CLK2/TRCIOD) (io), 10 P3_4/IVREF3/SSI(/RXD2/SCL2/TXD2/SDA2/TRCIOC) (io), 11 P3_3/IVCMP3/~{INT3}/~{SCS}(/~{CTS2}/~{RTS2}/TRCCLK) (io), 12 P4_5/~{ADTRG}/~{INT0}(/RXD2/SCL2) (io), 13 P1_7/IVCMP1/~{INT1}(/TRAIO) (io), 14 P1_6/LVCOUT2/IVREF1(/CLK0) (io), 15 P1_5(/~{INT1}/RXD0/TRAIO) (io), 16 P1_4(/TXD0/TRCCLK) (io), 17 P1_3/AN11/LVCOUT1/~{Kl3}/TRBO(/TRCIOC) (io), 18 P1_2/AN10/LVREF/~{Kl2}(/TRCIOB) (io), 19 P1_1/AN9/LVCMP2/~{KI1}(/TRCIOA/TRCTRG) (io), 20 P1_0/AN8/LVCMP1/~{KI0}(/TRCIOD) (io)

## R5F21322CDSP
designator U?
R8C/32C Group Single Chip 16-Bit CMOS MCU, 8K + 4K ROM, 1K RAM, D Version; Published: 17-Feb-2010; DatasheetVersion: Rev.1.00, Dec-2009; PackageVersion: Sep-2005; PackageReference: PLSP0020JB-A; Publisher: Altium Limited; PackageDescription: 20-Pin Plastic Low Profile Shrink SOP, 6.5 x 4.4 x 1.15 mm Body, 0.65 mm Pitch; Code_JEITA: P-LSSOP20-4.4x6.5-0.65; Code_JEDEC: MO-152-AC; ComponentLink1Description: Manufacturer Link; ComponentLink1URL: http://sg.renesas.com/fmwk.jsp?cnt=r8c_family_landing.jsp&fp=/products/mpumcu/r8c_family/; ComponentLink2Description: Datasheet; ComponentLink2URL: http://documentation.renesas.com/eng/products/mpumcu/rej09b0573_r8c32chm.pdf; ComponentLink3Description: Packaging Specification; ComponentLink3URL: http://sg.renesas.com/media/products/common_info/package/pdf/ic/code/plsp0020jb_a.pdf
footprint PLSP0020JB-A_N (SOP, 20-Leads, Body 6.5x4.4mm, Pitch 0.65mm, IPC Medium Density)
footprint PLSP0020JB-A_L (SOP, 20-Leads, Body 6.5x4.4mm, Pitch 0.65mm, IPC High Density)
footprint PLSP0020JB-A_M (SOP, 20-Leads, Body 6.5x4.4mm, Pitch 0.65mm, IPC Low Density)
pins: 1 P4_2/VREF (in), 2 MODE (in), 3 ~{RESET} (in), 4 P4_7/XOUT(/XCOUT), 5 VSS/AVSS (power), 6 P4_6/XIN(/XCIN) (in), 7 VCC/AVCC (power), 8 P3_7/SDA/SSO/TRAO(/RXD2/SCL2/TXD2/SDA2) (io), 9 P3_5/SCL/SSCK(/CLK2/TRCIOD) (io), 10 P3_4/IVREF3/SSI(/RXD2/SCL2/TXD2/SDA2/TRCIOC) (io), 11 P3_3/IVCMP3/~{INT3}/~{SCS}(/~{CTS2}/~{RTS2}/TRCCLK) (io), 12 P4_5/~{ADTRG}/~{INT0}(/RXD2/SCL2) (io), 13 P1_7/IVCMP1/~{INT1}(/TRAIO) (io), 14 P1_6/IVREF1(/CLK0) (io), 15 P1_5(/~{INT1}/RXD0/TRAIO) (io), 16 P1_4(/TXD0/TRCCLK) (io), 17 P1_3/AN11/~{Kl3}/TRBO(/TRCIOC) (io), 18 P1_2/AN10/~{Kl2}(/TRCIOB) (io), 19 P1_1/AN9/~{KI1}(/TRCIOA/TRCTRG) (io), 20 P1_0/AN8/LVCMP1/~{KI0}(/TRCIOD) (io)

## R5F21322CNSP
designator U?
R8C/32C Group Single Chip 16-Bit CMOS MCU, 8K + 4K ROM, 1K RAM, N Version; Published: 17-Feb-2010; DatasheetVersion: Rev.1.00, Dec-2009; PackageVersion: Sep-2005; PackageReference: PLSP0020JB-A; Publisher: Altium Limited; PackageDescription: 20-Pin Plastic Low Profile Shrink SOP, 6.5 x 4.4 x 1.15 mm Body, 0.65 mm Pitch; Code_JEITA: P-LSSOP20-4.4x6.5-0.65; Code_JEDEC: MO-152-AC; ComponentLink1Description: Manufacturer Link; ComponentLink1URL: http://sg.renesas.com/fmwk.jsp?cnt=r8c_family_landing.jsp&fp=/products/mpumcu/r8c_family/; ComponentLink2Description: Datasheet; ComponentLink2URL: http://documentation.renesas.com/eng/products/mpumcu/rej09b0573_r8c32chm.pdf; ComponentLink3Description: Packaging Specification; ComponentLink3URL: http://sg.renesas.com/media/products/common_info/package/pdf/ic/code/plsp0020jb_a.pdf
footprint PLSP0020JB-A_N (SOP, 20-Leads, Body 6.5x4.4mm, Pitch 0.65mm, IPC Medium Density)
footprint PLSP0020JB-A_L (SOP, 20-Leads, Body 6.5x4.4mm, Pitch 0.65mm, IPC High Density)
footprint PLSP0020JB-A_M (SOP, 20-Leads, Body 6.5x4.4mm, Pitch 0.65mm, IPC Low Density)
pins: 1 P4_2/VREF (in), 2 MODE (in), 3 ~{RESET} (in), 4 P4_7/XOUT(/XCOUT), 5 VSS/AVSS (power), 6 P4_6/XIN(/XCIN) (in), 7 VCC/AVCC (power), 8 P3_7/SDA/SSO/TRAO(/RXD2/SCL2/TXD2/SDA2) (io), 9 P3_5/SCL/SSCK(/CLK2/TRCIOD) (io), 10 P3_4/IVREF3/SSI(/RXD2/SCL2/TXD2/SDA2/TRCIOC) (io), 11 P3_3/IVCMP3/~{INT3}/~{SCS}(/~{CTS2}/~{RTS2}/TRCCLK) (io), 12 P4_5/~{ADTRG}/~{INT0}(/RXD2/SCL2) (io), 13 P1_7/IVCMP1/~{INT1}(/TRAIO) (io), 14 P1_6/IVREF1(/CLK0) (io), 15 P1_5(/~{INT1}/RXD0/TRAIO) (io), 16 P1_4(/TXD0/TRCCLK) (io), 17 P1_3/AN11/~{Kl3}/TRBO(/TRCIOC) (io), 18 P1_2/AN10/~{Kl2}(/TRCIOB) (io), 19 P1_1/AN9/~{KI1}(/TRCIOA/TRCTRG) (io), 20 P1_0/AN8/LVCMP1/~{KI0}(/TRCIOD) (io)

## R5F21324ANSP
designator U?
R8C/32A Group Single Chip 16-Bit CMOS MCU, 16K ROM + 1K x4 Data Flash, 1.5K RAM, N Version; Published: 30-Oct-2009; DatasheetVersion: Rev.1.00, Sep-2009; PackageVersion: Sep-2005; PackageReference: PLSP0020JB-A; Publisher: Altium Limited; PackageDescription: 20-Pin Plastic Low Profile Shrink SOP, 6.5 x 4.4 x 1.15 mm Body, 0.65 mm Pitch; Code_JEITA: P-LSSOP20-4.4x6.5-0.65; Code_JEDEC: MO-152-AC; ComponentLink1Description: Manufacturer Link; ComponentLink1URL: http://sg.renesas.com/fmwk.jsp?cnt=r8c_family_landing.jsp&fp=/products/mpumcu/r8c_family/; ComponentLink2Description: Datasheet; ComponentLink2URL: http://documentation.renesas.com/eng/products/mpumcu/rej03b0229_r8c32ads.pdf; ComponentLink3Description: Packaging Specification; ComponentLink3URL: http://sg.renesas.com/media/products/common_info/package/pdf/ic/code/plsp0020jb_a.pdf
footprint PLSP0020JB-A_N (SOP, 20-Leads, Body 6.5x4.4mm, Pitch 0.65mm, IPC Medium Density)
footprint PLSP0020JB-A_L (SOP, 20-Leads, Body 6.5x4.4mm, Pitch 0.65mm, IPC High Density)
footprint PLSP0020JB-A_M (SOP, 20-Leads, Body 6.5x4.4mm, Pitch 0.65mm, IPC Low Density)
pins: 1 P4_2/VREF (in), 2 MODE (in), 3 ~{RESET} (in), 4 P4_7/XOUT(/XCOUT), 5 VSS/AVSS (power), 6 P4_6/XIN(/XCIN) (in), 7 VCC/AVCC (power), 8 P3_7/SDA/SSO/TRAO(/RXD2/SCL2/TXD2/SDA2) (io), 9 P3_5/SCL/SSCK(/CLK2/TRCIOD) (io), 10 P3_4/IVREF3/SSI(/RXD2/SCL2/TXD2/SDA2/TRCIOC) (io), 11 P3_3/IVCMP3/~{INT3}/~{SCS}(/~{CTS2}/~{RTS2}/TRCCLK) (io), 12 P4_5/~{ADTRG}/~{INT0}(/RXD2/SCL2) (io), 13 P1_7/IVCMP1/~{INT1}(/TRAIO) (io), 14 P1_6/LVCOUT2/IVREF1(/CLK0) (io), 15 P1_5(/~{INT1}/RXD0/TRAIO) (io), 16 P1_4(/TXD0/TRCCLK) (io), 17 P1_3/AN11/LVCOUT1/~{Kl3}/TRBO(/TRCIOC) (io), 18 P1_2/AN10/LVREF/~{Kl2}(/TRCIOB) (io), 19 P1_1/AN9/LVCMP2/~{KI1}(/TRCIOA/TRCTRG) (io), 20 P1_0/AN8/LVCMP1/~{KI0}(/TRCIOD) (io)

## R5F21324CDSP
designator U?
R8C/32C Group Single Chip 16-Bit CMOS MCU, 16K + 4K ROM, 1.5K RAM, D Version; Published: 17-Feb-2010; DatasheetVersion: Rev.1.00, Dec-2009; PackageVersion: Sep-2005; PackageReference: PLSP0020JB-A; Publisher: Altium Limited; PackageDescription: 20-Pin Plastic Low Profile Shrink SOP, 6.5 x 4.4 x 1.15 mm Body, 0.65 mm Pitch; Code_JEITA: P-LSSOP20-4.4x6.5-0.65; Code_JEDEC: MO-152-AC; ComponentLink1Description: Manufacturer Link; ComponentLink1URL: http://sg.renesas.com/fmwk.jsp?cnt=r8c_family_landing.jsp&fp=/products/mpumcu/r8c_family/; ComponentLink2Description: Datasheet; ComponentLink2URL: http://documentation.renesas.com/eng/products/mpumcu/rej09b0573_r8c32chm.pdf; ComponentLink3Description: Packaging Specification; ComponentLink3URL: http://sg.renesas.com/media/products/common_info/package/pdf/ic/code/plsp0020jb_a.pdf
footprint PLSP0020JB-A_N (SOP, 20-Leads, Body 6.5x4.4mm, Pitch 0.65mm, IPC Medium Density)
footprint PLSP0020JB-A_L (SOP, 20-Leads, Body 6.5x4.4mm, Pitch 0.65mm, IPC High Density)
footprint PLSP0020JB-A_M (SOP, 20-Leads, Body 6.5x4.4mm, Pitch 0.65mm, IPC Low Density)
pins: 1 P4_2/VREF (in), 2 MODE (in), 3 ~{RESET} (in), 4 P4_7/XOUT(/XCOUT), 5 VSS/AVSS (power), 6 P4_6/XIN(/XCIN) (in), 7 VCC/AVCC (power), 8 P3_7/SDA/SSO/TRAO(/RXD2/SCL2/TXD2/SDA2) (io), 9 P3_5/SCL/SSCK(/CLK2/TRCIOD) (io), 10 P3_4/IVREF3/SSI(/RXD2/SCL2/TXD2/SDA2/TRCIOC) (io), 11 P3_3/IVCMP3/~{INT3}/~{SCS}(/~{CTS2}/~{RTS2}/TRCCLK) (io), 12 P4_5/~{ADTRG}/~{INT0}(/RXD2/SCL2) (io), 13 P1_7/IVCMP1/~{INT1}(/TRAIO) (io), 14 P1_6/IVREF1(/CLK0) (io), 15 P1_5(/~{INT1}/RXD0/TRAIO) (io), 16 P1_4(/TXD0/TRCCLK) (io), 17 P1_3/AN11/~{Kl3}/TRBO(/TRCIOC) (io), 18 P1_2/AN10/~{Kl2}(/TRCIOB) (io), 19 P1_1/AN9/~{KI1}(/TRCIOA/TRCTRG) (io), 20 P1_0/AN8/LVCMP1/~{KI0}(/TRCIOD) (io)

## R5F21324CNSP
designator U?
R8C/32C Group Single Chip 16-Bit CMOS MCU, 16K + 4K ROM, 1.5K RAM, N Version; Published: 17-Feb-2010; DatasheetVersion: Rev.1.00, Dec-2009; PackageVersion: Sep-2005; PackageReference: PLSP0020JB-A; Publisher: Altium Limited; PackageDescription: 20-Pin Plastic Low Profile Shrink SOP, 6.5 x 4.4 x 1.15 mm Body, 0.65 mm Pitch; Code_JEITA: P-LSSOP20-4.4x6.5-0.65; Code_JEDEC: MO-152-AC; ComponentLink1Description: Manufacturer Link; ComponentLink1URL: http://sg.renesas.com/fmwk.jsp?cnt=r8c_family_landing.jsp&fp=/products/mpumcu/r8c_family/; ComponentLink2Description: Datasheet; ComponentLink2URL: http://documentation.renesas.com/eng/products/mpumcu/rej09b0573_r8c32chm.pdf; ComponentLink3Description: Packaging Specification; ComponentLink3URL: http://sg.renesas.com/media/products/common_info/package/pdf/ic/code/plsp0020jb_a.pdf
footprint PLSP0020JB-A_N (SOP, 20-Leads, Body 6.5x4.4mm, Pitch 0.65mm, IPC Medium Density)
footprint PLSP0020JB-A_L (SOP, 20-Leads, Body 6.5x4.4mm, Pitch 0.65mm, IPC High Density)
footprint PLSP0020JB-A_M (SOP, 20-Leads, Body 6.5x4.4mm, Pitch 0.65mm, IPC Low Density)
pins: 1 P4_2/VREF (in), 2 MODE (in), 3 ~{RESET} (in), 4 P4_7/XOUT(/XCOUT), 5 VSS/AVSS (power), 6 P4_6/XIN(/XCIN) (in), 7 VCC/AVCC (power), 8 P3_7/SDA/SSO/TRAO(/RXD2/SCL2/TXD2/SDA2) (io), 9 P3_5/SCL/SSCK(/CLK2/TRCIOD) (io), 10 P3_4/IVREF3/SSI(/RXD2/SCL2/TXD2/SDA2/TRCIOC) (io), 11 P3_3/IVCMP3/~{INT3}/~{SCS}(/~{CTS2}/~{RTS2}/TRCCLK) (io), 12 P4_5/~{ADTRG}/~{INT0}(/RXD2/SCL2) (io), 13 P1_7/IVCMP1/~{INT1}(/TRAIO) (io), 14 P1_6/IVREF1(/CLK0) (io), 15 P1_5(/~{INT1}/RXD0/TRAIO) (io), 16 P1_4(/TXD0/TRCCLK) (io), 17 P1_3/AN11/~{Kl3}/TRBO(/TRCIOC) (io), 18 P1_2/AN10/~{Kl2}(/TRCIOB) (io), 19 P1_1/AN9/~{KI1}(/TRCIOA/TRCTRG) (io), 20 P1_0/AN8/LVCMP1/~{KI0}(/TRCIOD) (io)

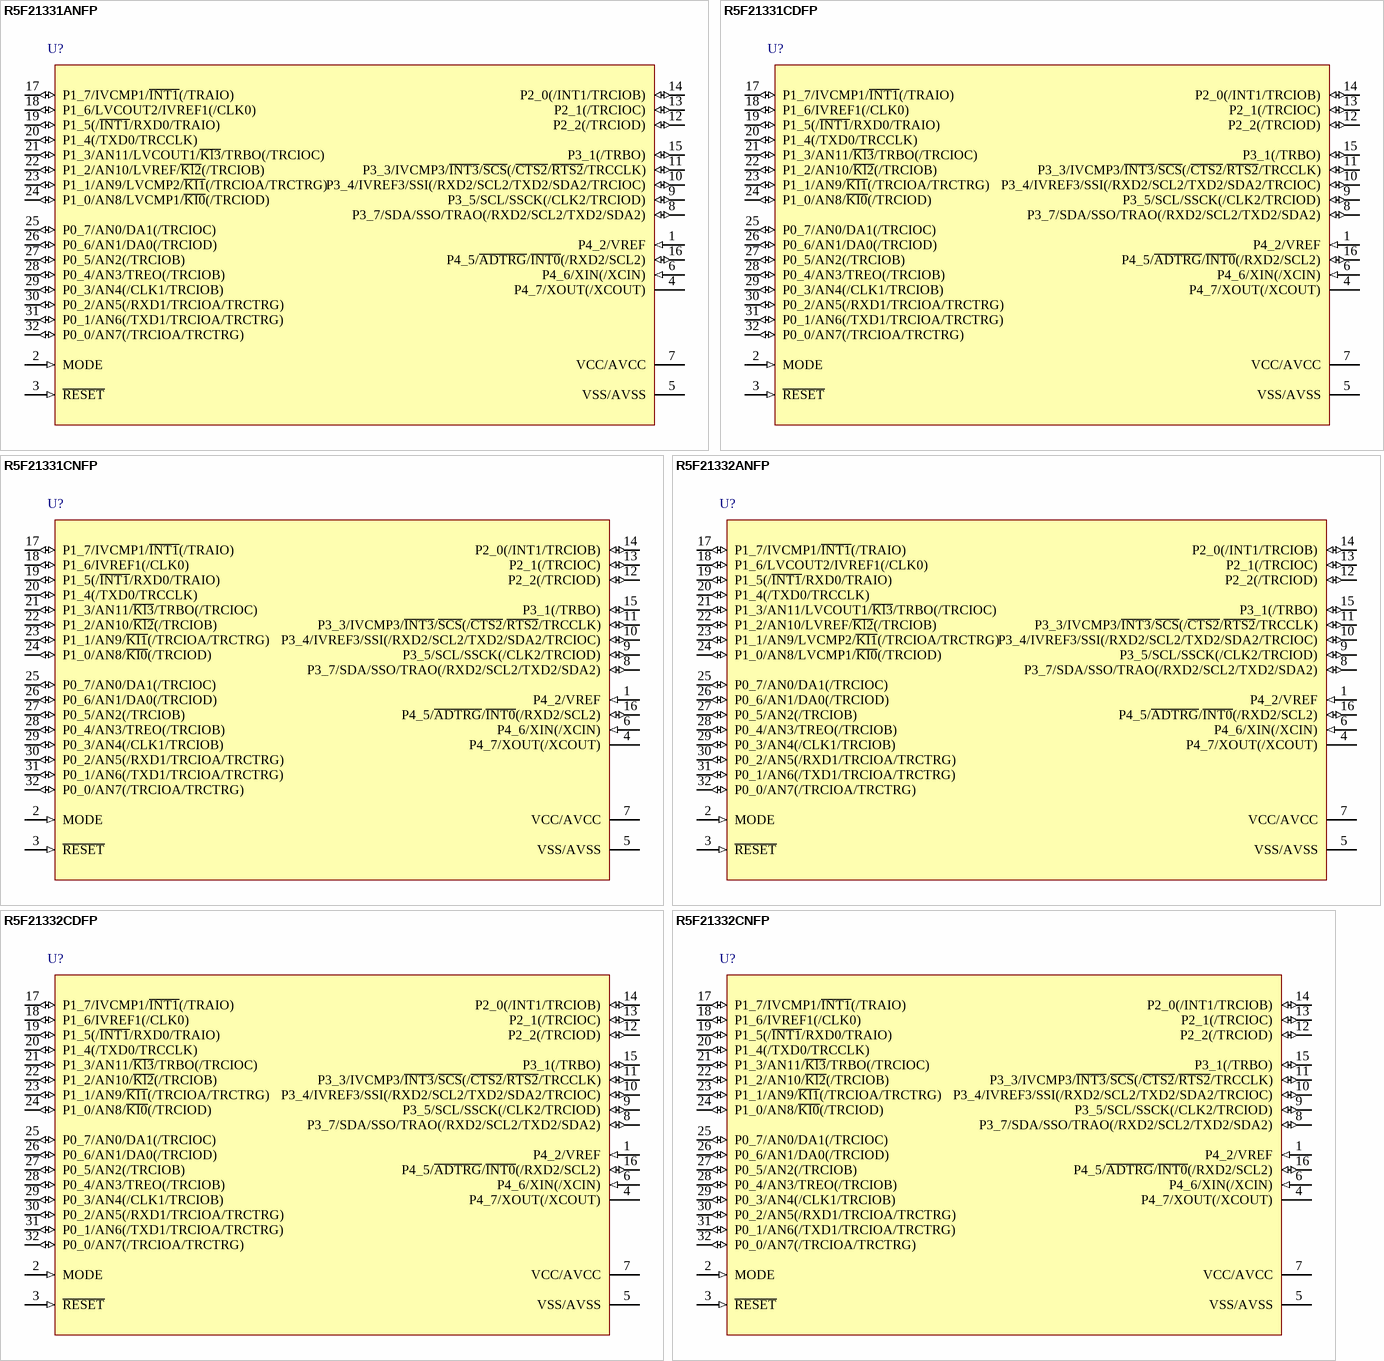
[diagram p91: symbols R5F21331ANFP to R5F21332CNFP]

## R5F21331ANFP
designator U?
R8C/33A Group Single Chip 16-Bit CMOS MCU, 4K ROM + 1K x4 Data Flash, 512b RAM, N Version; Published: 30-Oct-2009; DatasheetVersion: Rev.1.00, Sep-2009; PackageVersion: Oct-2005; PackageReference: PLQP0032GB-A; Publisher: Altium Limited; PackageDescription: 32-Pin Plastic Low Profile QFP, 7 x 7 x 1.4 mm Body, 0.8 mm Pitch; Code_JEITA: P-LQFP32-7x7-0.80; ComponentLink1Description: Manufacturer Link; ComponentLink1URL: http://sg.renesas.com/fmwk.jsp?cnt=r8c_family_landing.jsp&fp=/products/mpumcu/r8c_family/; ComponentLink2Description: Datasheet; ComponentLink2URL: http://documentation.renesas.com/eng/products/mpumcu/rej03b0228_r8c33ads.pdf; ComponentLink3Description: Packaging Specification; ComponentLink3URL: http://sg.renesas.com/media/products/common_info/package/pdf/ic/code/plqp0032gb_a.pdf
footprint PLQP0032GB-A_N (QFP, 32-Leads, Body 7x7mm, Pitch 0.8mm, IPC Medium Density)
footprint PLQP0032GB-A_L (QFP, 32-Leads, Body 7x7mm, Pitch 0.8mm, IPC High Density)
footprint PLQP0032GB-A_M (QFP, 32-Leads, Body 7x7mm, Pitch 0.8mm, IPC Low Density)
pins: 1 P4_2/VREF (in), 2 MODE (in), 3 ~{RESET} (in), 4 P4_7/XOUT(/XCOUT), 5 VSS/AVSS (power), 6 P4_6/XIN(/XCIN) (in), 7 VCC/AVCC (power), 8 P3_7/SDA/SSO/TRAO(/RXD2/SCL2/TXD2/SDA2) (io), 9 P3_5/SCL/SSCK(/CLK2/TRCIOD) (io), 10 P3_4/IVREF3/SSI(/RXD2/SCL2/TXD2/SDA2/TRCIOC) (io), 11 P3_3/IVCMP3/~{INT3}/~{SCS}(/~{CTS2}/~{RTS2}/TRCCLK) (io), 12 P2_2(/TRCIOD) (io), 13 P2_1(/TRCIOC) (io), 14 P2_0(/INT1/TRCIOB) (io), 15 P3_1(/TRBO) (io), 16 P4_5/~{ADTRG}/~{INT0}(/RXD2/SCL2) (io), 17 P1_7/IVCMP1/~{INT1}(/TRAIO) (io), 18 P1_6/LVCOUT2/IVREF1(/CLK0) (io), 19 P1_5(/~{INT1}/RXD0/TRAIO) (io), 20 P1_4(/TXD0/TRCCLK) (io), 21 P1_3/AN11/LVCOUT1/~{Kl3}/TRBO(/TRCIOC) (io), 22 P1_2/AN10/LVREF/~{Kl2}(/TRCIOB) (io), 23 P1_1/AN9/LVCMP2/~{KI1}(/TRCIOA/TRCTRG) (io), 24 P1_0/AN8/LVCMP1/~{KI0}(/TRCIOD) (io), 25 P0_7/AN0/DA1(/TRCIOC) (io), 26 P0_6/AN1/DA0(/TRCIOD) (io), 27 P0_5/AN2(/TRCIOB) (io), 28 P0_4/AN3/TREO(/TRCIOB) (io), 29 P0_3/AN4(/CLK1/TRCIOB) (io), 30 P0_2/AN5(/RXD1/TRCIOA/TRCTRG) (io), 31 P0_1/AN6(/TXD1/TRCIOA/TRCTRG) (io), 32 P0_0/AN7(/TRCIOA/TRCTRG) (io)

## R5F21331CDFP
designator U?
R8C/33C Group Single Chip 16-Bit CMOS MCU, 4K + 4K ROM, 512b RAM, D Version; Published: 17-Feb-2010; DatasheetVersion: Rev.1.00, Dec-2009; PackageVersion: Oct-2005; PackageReference: PLQP0032GB-A; Publisher: Altium Limited; PackageDescription: 32-Pin Plastic Low Profile QFP, 7 x 7 x 1.4 mm Body, 0.8 mm Pitch; Code_JEITA: P-LQFP32-7x7-0.80; ComponentLink1Description: Manufacturer Link; ComponentLink1URL: http://sg.renesas.com/fmwk.jsp?cnt=r8c_family_landing.jsp&fp=/products/mpumcu/r8c_family/; ComponentLink2Description: Datasheet; ComponentLink2URL: http://documentation.renesas.com/eng/products/mpumcu/rej09b0570_r8c33chm.pdf; ComponentLink3Description: Packaging Specification; ComponentLink3URL: http://sg.renesas.com/media/products/common_info/package/pdf/ic/code/plqp0032gb_a.pdf
footprint PLQP0032GB-A_N (QFP, 32-Leads, Body 7x7mm, Pitch 0.8mm, IPC Medium Density)
footprint PLQP0032GB-A_L (QFP, 32-Leads, Body 7x7mm, Pitch 0.8mm, IPC High Density)
footprint PLQP0032GB-A_M (QFP, 32-Leads, Body 7x7mm, Pitch 0.8mm, IPC Low Density)
pins: 1 P4_2/VREF (in), 2 MODE (in), 3 ~{RESET} (in), 4 P4_7/XOUT(/XCOUT), 5 VSS/AVSS (power), 6 P4_6/XIN(/XCIN) (in), 7 VCC/AVCC (power), 8 P3_7/SDA/SSO/TRAO(/RXD2/SCL2/TXD2/SDA2) (io), 9 P3_5/SCL/SSCK(/CLK2/TRCIOD) (io), 10 P3_4/IVREF3/SSI(/RXD2/SCL2/TXD2/SDA2/TRCIOC) (io), 11 P3_3/IVCMP3/~{INT3}/~{SCS}(/~{CTS2}/~{RTS2}/TRCCLK) (io), 12 P2_2(/TRCIOD) (io), 13 P2_1(/TRCIOC) (io), 14 P2_0(/INT1/TRCIOB) (io), 15 P3_1(/TRBO) (io), 16 P4_5/~{ADTRG}/~{INT0}(/RXD2/SCL2) (io), 17 P1_7/IVCMP1/~{INT1}(/TRAIO) (io), 18 P1_6/IVREF1(/CLK0) (io), 19 P1_5(/~{INT1}/RXD0/TRAIO) (io), 20 P1_4(/TXD0/TRCCLK) (io), 21 P1_3/AN11/~{Kl3}/TRBO(/TRCIOC) (io), 22 P1_2/AN10/~{Kl2}(/TRCIOB) (io), 23 P1_1/AN9/~{KI1}(/TRCIOA/TRCTRG) (io), 24 P1_0/AN8/~{KI0}(/TRCIOD) (io), 25 P0_7/AN0/DA1(/TRCIOC) (io), 26 P0_6/AN1/DA0(/TRCIOD) (io), 27 P0_5/AN2(/TRCIOB) (io), 28 P0_4/AN3/TREO(/TRCIOB) (io), 29 P0_3/AN4(/CLK1/TRCIOB) (io), 30 P0_2/AN5(/RXD1/TRCIOA/TRCTRG) (io), 31 P0_1/AN6(/TXD1/TRCIOA/TRCTRG) (io), 32 P0_0/AN7(/TRCIOA/TRCTRG) (io)